# Altium integrated library Renesas Microcontroller H8S.IntLib: 670 symbols (part 11 of 70)
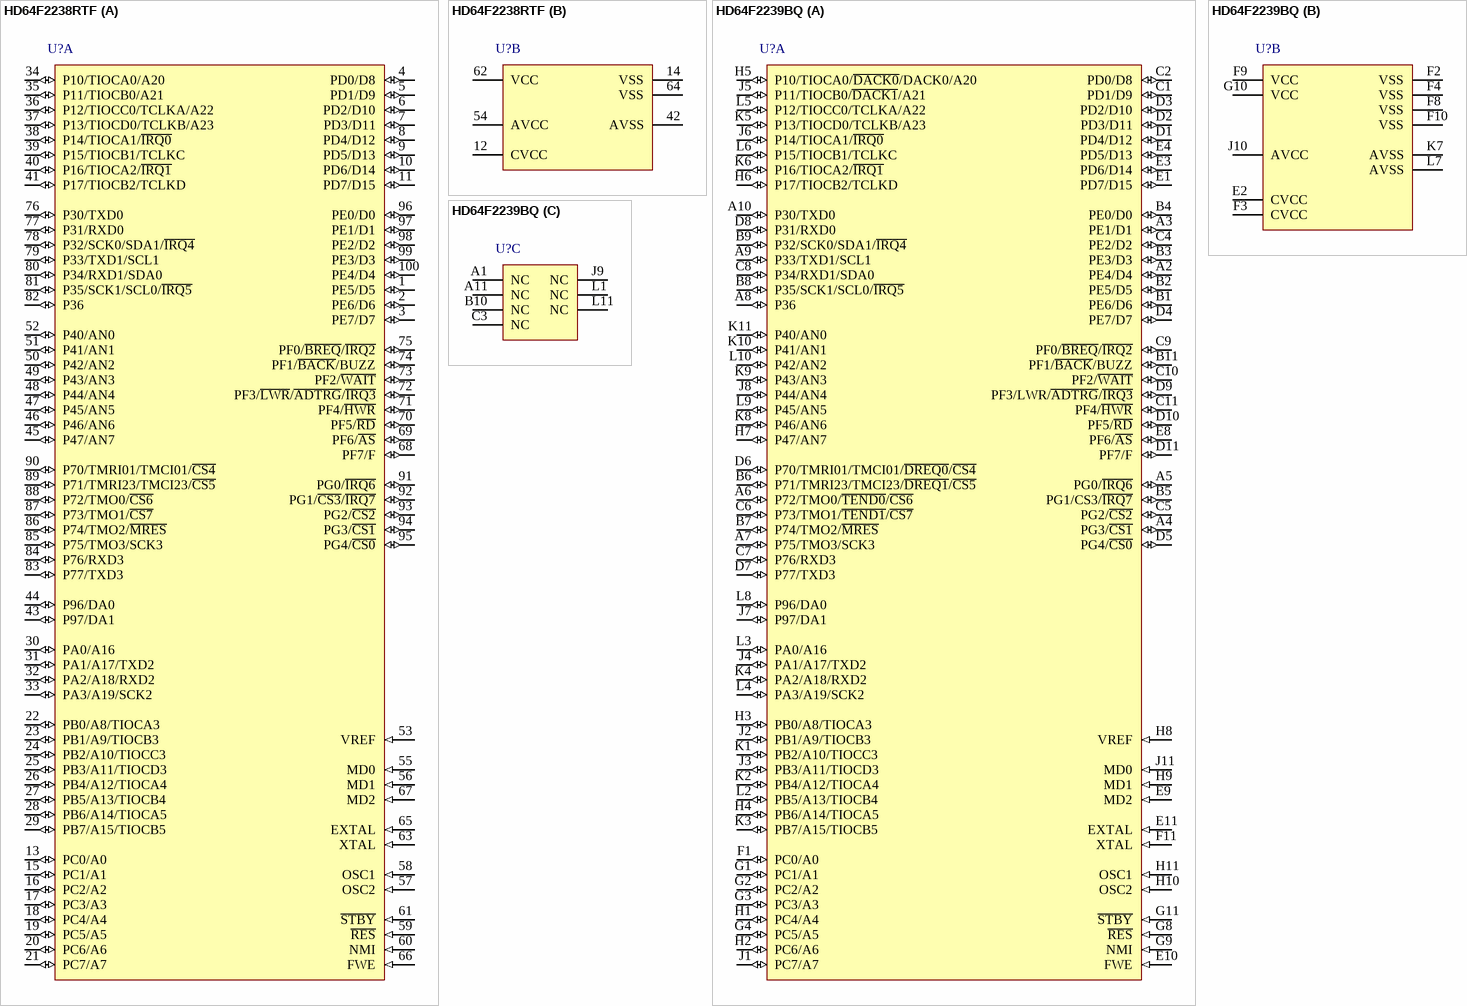
[diagram p250: symbols HD64F2238RTF to HD64F2239BQ]

## HD64F2239BQ
designator U?
Flash memory H8S/2200 Series, 2239 Group MCU, 384K ROM, 32K RAM, TBP-112A Pkg; Published: 28-Aug-2009; DatasheetVersion: Rev.5.00, Aug-2006; PackageVersion: Sep-2005; PackageReference: TTBG0112GA-A; Publisher: Altium Limited; PackageDescription: 112-Ball Thin Fine Pitch Ball Grid Array, 10 x 10 mm Body, 0.8 mm Pitch; Code_JEITA: T-TFBGA112-10x10-0.80; ComponentLink1Description: Manufacturer Link; ComponentLink1URL: http://sg.renesas.com/fmwk.jsp?cnt=h8s_family_landing.jsp&fp=/products/mpumcu/h8s_family/; ComponentLink2Description: Datasheet; ComponentLink2URL: http://documentation.renesas.com/eng/products/mpumcu/rej09b0054_h8s2239.pdf; ComponentLink3Description: Packaging Specification; ComponentLink3URL: http://sg.renesas.com/media/products/common_info/package/pdf/ic/code/ttbg0112ga_a.pdf
footprint TTBG0112GA-A (BGA, 112-Leads, Body 10x10mm, Pitch 0.8mm)
part A pins: A2 PE4/D4 (io), A3 PE1/D1 (io), A4 PG3/~{CS1} (io), A5 PG0/~{IRQ6} (io), A6 P72/TMO0/~{TEND0}/~{CS6} (io), A7 P75/TMO3/SCK3 (io), A8 P36 (io), A9 P33/TXD1/SCL1 (io), A10 P30/TXD0 (io), B1 PE6/D6 (io), B2 PE5/D5 (io), B3 PE3/D3 (io), B4 PE0/D0 (io), B5 PG1/CS3/~{IRQ7} (io), B6 P71/TMRI23/TMCI23/~{DREQ1}/~{CS5} (io), B7 P74/TMO2/~{MRES} (io), B8 P35/SCK1/SCL0/~{IRQ5} (io), B9 P32/SCK0/SDA1/~{IRQ4} (io), B11 PF1/~{BACK}/BUZZ (io), C1 PD1/D9 (io), C2 PD0/D8 (io), C4 PE2/D2 (io), C5 PG2/~{CS2} (io), C6 P73/TMO1/~{TEND1}/~{CS7} (io), C7 P76/RXD3 (io), C8 P34/RXD1/SDA0 (io), C9 PF0/~{BREQ}/~{IRQ2} (io), C10 PF2/~{WAIT} (io), C11 PF4/~{HWR} (io), D1 PD4/D12 (io), D2 PD3/D11 (io), D3 PD2/D10 (io), D4 PE7/D7 (io), D5 PG4/~{CS0} (io), D6 P70/TMRI01/TMCI01/~{DREQ0}/~{CS4} (io), D7 P77/TXD3 (io), D8 P31/RXD0 (io), D9 PF3/LWR/~{ADTRG}/~{IRQ3} (io), D10 PF5/~{RD} (io), D11 PF7/F (io), E1 PD7/D15 (io), E3 PD6/D14 (io), E4 PD5/D13 (io), E8 PF6/~{AS} (io), E9 MD2 (in), E10 FWE (in), E11 EXTAL (in), F1 PC0/A0 (io), F11 XTAL (in), G1 PC1/A1 (io), G2 PC2/A2 (io), G3 PC3/A3 (io), G4 PC5/A5 (io), G8 ~{RES} (in), G9 NMI (in), G11 ~{STBY} (in), H1 PC4/A4 (io), H2 PC6/A6 (io), H3 PB0/A8/TIOCA3 (io), H4 PB6/A14/TIOCA5 (io), H5 P10/TIOCA0/~{DACK0}/DACK0/A20 (io), H6 P17/TIOCB2/TCLKD (io), H7 P47/AN7 (io), H8 VREF (in), H9 MD1 (in), H10 OSC2 (in), H11 OSC1 (in), J1 PC7/A7 (io), J2 PB1/A9/TIOCB3 (io), J3 PB3/A11/TIOCD3 (io), J4 PA1/A17/TXD2 (io), J5 P11/TIOCB0/~{DACK1}/A21 (io), J6 P14/TIOCA1/~{IRQ0} (io), J7 P97/DA1 (io), J8 P44/AN4 (io), J11 MD0 (in), K1 PB2/A10/TIOCC3 (io), K2 PB4/A12/TIOCA4 (io), K3 PB7/A15/TIOCB5 (io), K4 PA2/A18/RXD2 (io), K5 P13/TIOCD0/TCLKB/A23 (io), K6 P16/TIOCA2/~{IRQ1} (io), K8 P46/AN6 (io), K9 P43/AN3 (io), K10 P41/AN1 (io), K11 P40/AN0 (io), L2 PB5/A13/TIOCB4 (io), L3 PA0/A16 (io), L4 PA3/A19/SCK2 (io), L5 P12/TIOCC0/TCLKA/A22 (io), L6 P15/TIOCB1/TCLKC (io), L8 P96/DA0 (io), L9 P45/AN5 (io), L10 P42/AN2 (io)
part B pins: E2 CVCC, F2 VSS (power), F3 CVCC, F4 VSS (power), F8 VSS (power), F9 VCC (power), F10 VSS (power), G10 VCC (power), J10 AVCC (power), K7 AVSS (power), L7 AVSS (power)
part C pins: A1 NC, A11 NC, B10 NC, C3 NC, J9 NC, L1 NC, L11 NC

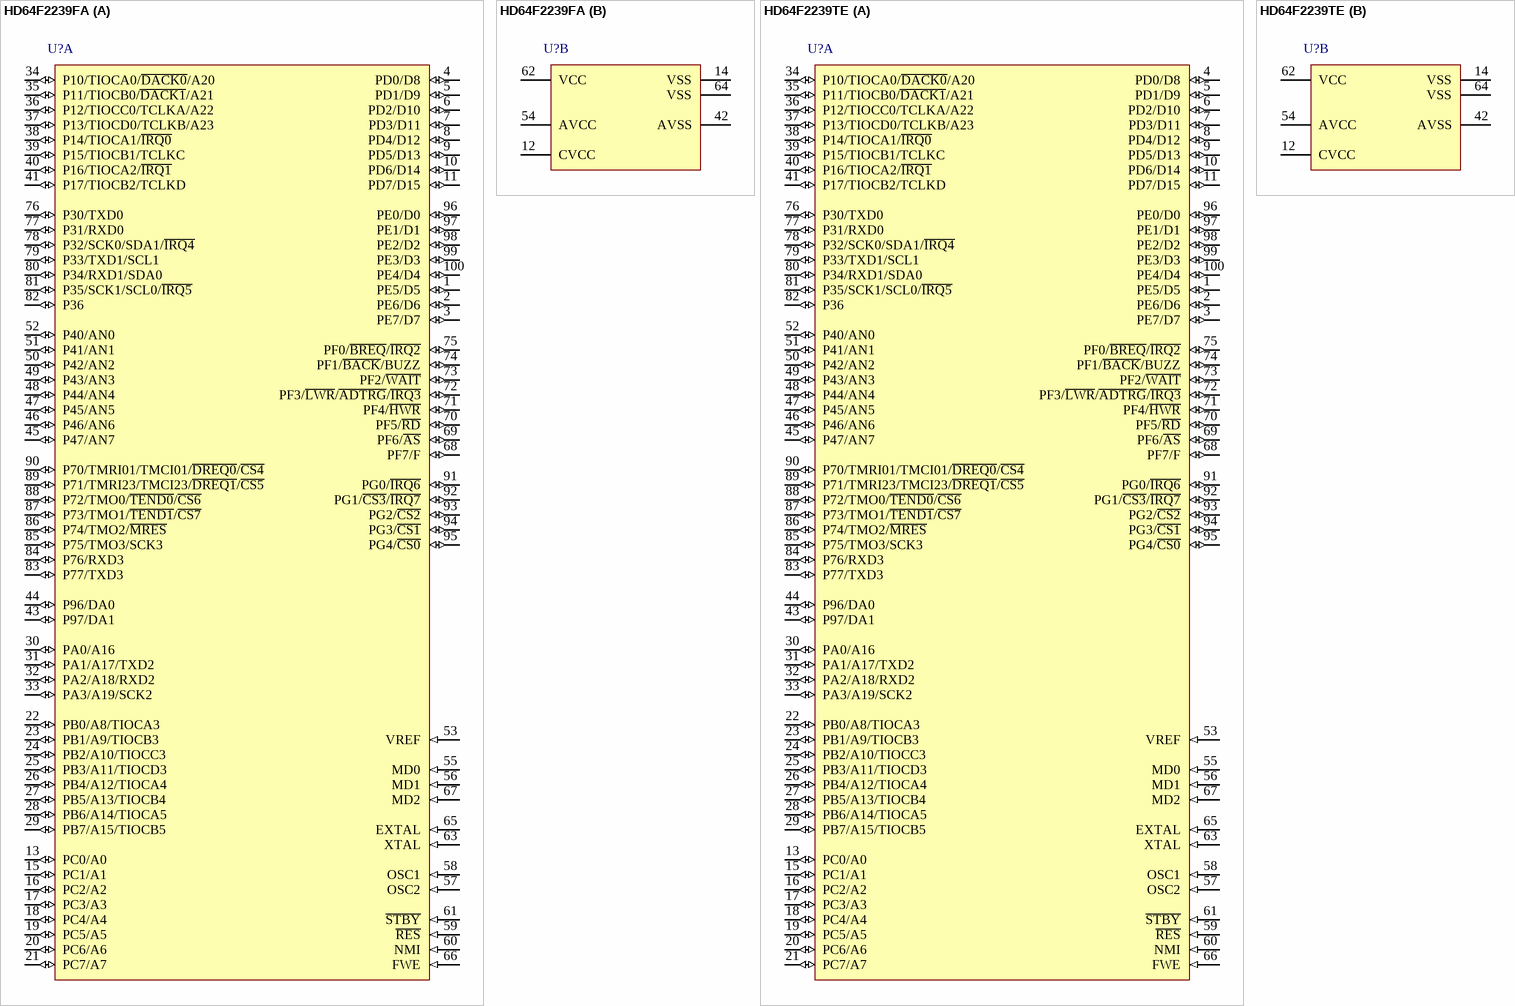
[diagram p38: symbols HD64F2239FA to HD64F2239TE]

## HD64F2239FA
designator U?
Flash memory H8S/2200 Series, 2239 Group MCU, 384K ROM, 32K RAM, FP-100B Pkg; Published: 28-Aug-2009; DatasheetVersion: Rev.5.00, Aug-2006; PackageVersion: Sep-2009; PackageReference: PRQP0100KA-A; Publisher: Altium Limited; PackageDescription: 100-Pin Plastic Quad Flat Pack, 14 x 14 x 2.7 mm Body, 0.5 mm Pitch; Code_JEITA: P-QFP100-14x14-0.50; ComponentLink1Description: Manufacturer Link; ComponentLink1URL: http://sg.renesas.com/fmwk.jsp?cnt=h8s_family_landing.jsp&fp=/products/mpumcu/h8s_family/; ComponentLink2Description: Datasheet; ComponentLink2URL: http://documentation.renesas.com/eng/products/mpumcu/rej09b0054_h8s2239.pdf; ComponentLink3Description: Packaging Specification; ComponentLink3URL: http://sg.renesas.com/media/products/common_info/package/pdf/ic/code/prqp0100ka_a.pdf
footprint PRQP0100KA-A_N (Shrink QFP, 100-Leads, Body 14x14mm, Pitch 0.5mm, IPC Medium Density)
footprint PRQP0100KA-A_L (Shrink QFP, 100-Leads, Body 14x14mm, Pitch 0.5mm, IPC High Density)
footprint PRQP0100KA-A_M (Shrink QFP, 100-Leads, Body 14x14mm, Pitch 0.5mm, IPC Low Density)
part A pins: 1 PE5/D5 (io), 2 PE6/D6 (io), 3 PE7/D7 (io), 4 PD0/D8 (io), 5 PD1/D9 (io), 6 PD2/D10 (io), 7 PD3/D11 (io), 8 PD4/D12 (io), 9 PD5/D13 (io), 10 PD6/D14 (io), 11 PD7/D15 (io), 13 PC0/A0 (io), 15 PC1/A1 (io), 16 PC2/A2 (io), 17 PC3/A3 (io), 18 PC4/A4 (io), 19 PC5/A5 (io), 20 PC6/A6 (io), 21 PC7/A7 (io), 22 PB0/A8/TIOCA3 (io), 23 PB1/A9/TIOCB3 (io), 24 PB2/A10/TIOCC3 (io), 25 PB3/A11/TIOCD3 (io), 26 PB4/A12/TIOCA4 (io), 27 PB5/A13/TIOCB4 (io), 28 PB6/A14/TIOCA5 (io), 29 PB7/A15/TIOCB5 (io), 30 PA0/A16 (io), 31 PA1/A17/TXD2 (io), 32 PA2/A18/RXD2 (io), 33 PA3/A19/SCK2 (io), 34 P10/TIOCA0/~{DACK0}/A20 (io), 35 P11/TIOCB0/~{DACK1}/A21 (io), 36 P12/TIOCC0/TCLKA/A22 (io), 37 P13/TIOCD0/TCLKB/A23 (io), 38 P14/TIOCA1/~{IRQ0} (io), 39 P15/TIOCB1/TCLKC (io), 40 P16/TIOCA2/~{IRQ1} (io), 41 P17/TIOCB2/TCLKD (io), 43 P97/DA1 (io), 44 P96/DA0 (io), 45 P47/AN7 (io), 46 P46/AN6 (io), 47 P45/AN5 (io), 48 P44/AN4 (io), 49 P43/AN3 (io), 50 P42/AN2 (io), 51 P41/AN1 (io), 52 P40/AN0 (io), 53 VREF (in), 55 MD0 (in), 56 MD1 (in), 57 OSC2 (in), 58 OSC1 (in), 59 ~{RES} (in), 60 NMI (in), 61 ~{STBY} (in), 63 XTAL (in), 65 EXTAL (in), 66 FWE (in), 67 MD2 (in), 68 PF7/F (io), 69 PF6/~{AS} (io), 70 PF5/~{RD} (io), 71 PF4/~{HWR} (io), 72 PF3/~{LWR}/~{ADTRG}/~{IRQ3} (io), 73 PF2/~{WAIT} (io), 74 PF1/~{BACK}/BUZZ (io), 75 PF0/~{BREQ}/~{IRQ2} (io), 76 P30/TXD0 (io), 77 P31/RXD0 (io), 78 P32/SCK0/SDA1/~{IRQ4} (io), 79 P33/TXD1/SCL1 (io), 80 P34/RXD1/SDA0 (io), 81 P35/SCK1/SCL0/~{IRQ5} (io), 82 P36 (io), 83 P77/TXD3 (io), 84 P76/RXD3 (io), 85 P75/TMO3/SCK3 (io), 86 P74/TMO2/~{MRES} (io), 87 P73/TMO1/~{TEND1}/~{CS7} (io), 88 P72/TMO0/~{TEND0}/~{CS6} (io), 89 P71/TMRI23/TMCI23/~{DREQ1}/~{CS5} (io), 90 P70/TMRI01/TMCI01/~{DREQ0}/~{CS4} (io), 91 PG0/~{IRQ6} (io), 92 PG1/~{CS3}/~{IRQ7} (io), 93 PG2/~{CS2} (io), 94 PG3/~{CS1} (io), 95 PG4/~{CS0} (io), 96 PE0/D0 (io), 97 PE1/D1 (io), 98 PE2/D2 (io), 99 PE3/D3 (io), 100 PE4/D4 (io)
part B pins: 12 CVCC, 14 VSS (power), 42 AVSS (power), 54 AVCC (power), 62 VCC (power), 64 VSS (power)

## HD64F2239TE
designator U?
Flash memory H8S/2200 Series, 2239 Group MCU, 384K ROM, 32K RAM, TFP-100B Pkg; Published: 28-Aug-2009; DatasheetVersion: Rev.5.00, Aug-2006; PackageVersion: Sep-2005; PackageReference: PTQP0100KA-A; Publisher: Altium Limited; PackageDescription: 100-Pin Plastic Thin Quad Flat Pack, 14 x 14 x 1.0 mm Body, 0.5 mm Pitch; Code_JEITA: P-TQFP100-14x14-0.50; ComponentLink1Description: Manufacturer Link; ComponentLink1URL: http://sg.renesas.com/fmwk.jsp?cnt=h8s_family_landing.jsp&fp=/products/mpumcu/h8s_family/; ComponentLink2Description: Datasheet; ComponentLink2URL: http://documentation.renesas.com/eng/products/mpumcu/rej09b0054_h8s2239.pdf; ComponentLink3Description: Packaging Specification; ComponentLink3URL: http://sg.renesas.com/media/products/common_info/package/pdf/ic/code/ptqp0100ka_a.pdf
footprint PTQP0100KA-A_N (Thin QFP, 100-Leads, Body 14x14mm, Pitch 0.5mm, IPC Medium Density)
footprint PTQP0100KA-A_L (Thin QFP, 100-Leads, Body 14x14mm, Pitch 0.5mm, IPC High Density)
footprint PTQP0100KA-A_M (Thin QFP, 100-Leads, Body 14x14mm, Pitch 0.5mm, IPC Low Density)
part A pins: 1 PE5/D5 (io), 2 PE6/D6 (io), 3 PE7/D7 (io), 4 PD0/D8 (io), 5 PD1/D9 (io), 6 PD2/D10 (io), 7 PD3/D11 (io), 8 PD4/D12 (io), 9 PD5/D13 (io), 10 PD6/D14 (io), 11 PD7/D15 (io), 13 PC0/A0 (io), 15 PC1/A1 (io), 16 PC2/A2 (io), 17 PC3/A3 (io), 18 PC4/A4 (io), 19 PC5/A5 (io), 20 PC6/A6 (io), 21 PC7/A7 (io), 22 PB0/A8/TIOCA3 (io), 23 PB1/A9/TIOCB3 (io), 24 PB2/A10/TIOCC3 (io), 25 PB3/A11/TIOCD3 (io), 26 PB4/A12/TIOCA4 (io), 27 PB5/A13/TIOCB4 (io), 28 PB6/A14/TIOCA5 (io), 29 PB7/A15/TIOCB5 (io), 30 PA0/A16 (io), 31 PA1/A17/TXD2 (io), 32 PA2/A18/RXD2 (io), 33 PA3/A19/SCK2 (io), 34 P10/TIOCA0/~{DACK0}/A20 (io), 35 P11/TIOCB0/~{DACK1}/A21 (io), 36 P12/TIOCC0/TCLKA/A22 (io), 37 P13/TIOCD0/TCLKB/A23 (io), 38 P14/TIOCA1/~{IRQ0} (io), 39 P15/TIOCB1/TCLKC (io), 40 P16/TIOCA2/~{IRQ1} (io), 41 P17/TIOCB2/TCLKD (io), 43 P97/DA1 (io), 44 P96/DA0 (io), 45 P47/AN7 (io), 46 P46/AN6 (io), 47 P45/AN5 (io), 48 P44/AN4 (io), 49 P43/AN3 (io), 50 P42/AN2 (io), 51 P41/AN1 (io), 52 P40/AN0 (io), 53 VREF (in), 55 MD0 (in), 56 MD1 (in), 57 OSC2 (in), 58 OSC1 (in), 59 ~{RES} (in), 60 NMI (in), 61 ~{STBY} (in), 63 XTAL (in), 65 EXTAL (in), 66 FWE (in), 67 MD2 (in), 68 PF7/F (io), 69 PF6/~{AS} (io), 70 PF5/~{RD} (io), 71 PF4/~{HWR} (io), 72 PF3/~{LWR}/~{ADTRG}/~{IRQ3} (io), 73 PF2/~{WAIT} (io), 74 PF1/~{BACK}/BUZZ (io), 75 PF0/~{BREQ}/~{IRQ2} (io), 76 P30/TXD0 (io), 77 P31/RXD0 (io), 78 P32/SCK0/SDA1/~{IRQ4} (io), 79 P33/TXD1/SCL1 (io), 80 P34/RXD1/SDA0 (io), 81 P35/SCK1/SCL0/~{IRQ5} (io), 82 P36 (io), 83 P77/TXD3 (io), 84 P76/RXD3 (io), 85 P75/TMO3/SCK3 (io), 86 P74/TMO2/~{MRES} (io), 87 P73/TMO1/~{TEND1}/~{CS7} (io), 88 P72/TMO0/~{TEND0}/~{CS6} (io), 89 P71/TMRI23/TMCI23/~{DREQ1}/~{CS5} (io), 90 P70/TMRI01/TMCI01/~{DREQ0}/~{CS4} (io), 91 PG0/~{IRQ6} (io), 92 PG1/~{CS3}/~{IRQ7} (io), 93 PG2/~{CS2} (io), 94 PG3/~{CS1} (io), 95 PG4/~{CS0} (io), 96 PE0/D0 (io), 97 PE1/D1 (io), 98 PE2/D2 (io), 99 PE3/D3 (io), 100 PE4/D4 (io)
part B pins: 12 CVCC, 14 VSS (power), 42 AVSS (power), 54 AVCC (power), 62 VCC (power), 64 VSS (power)

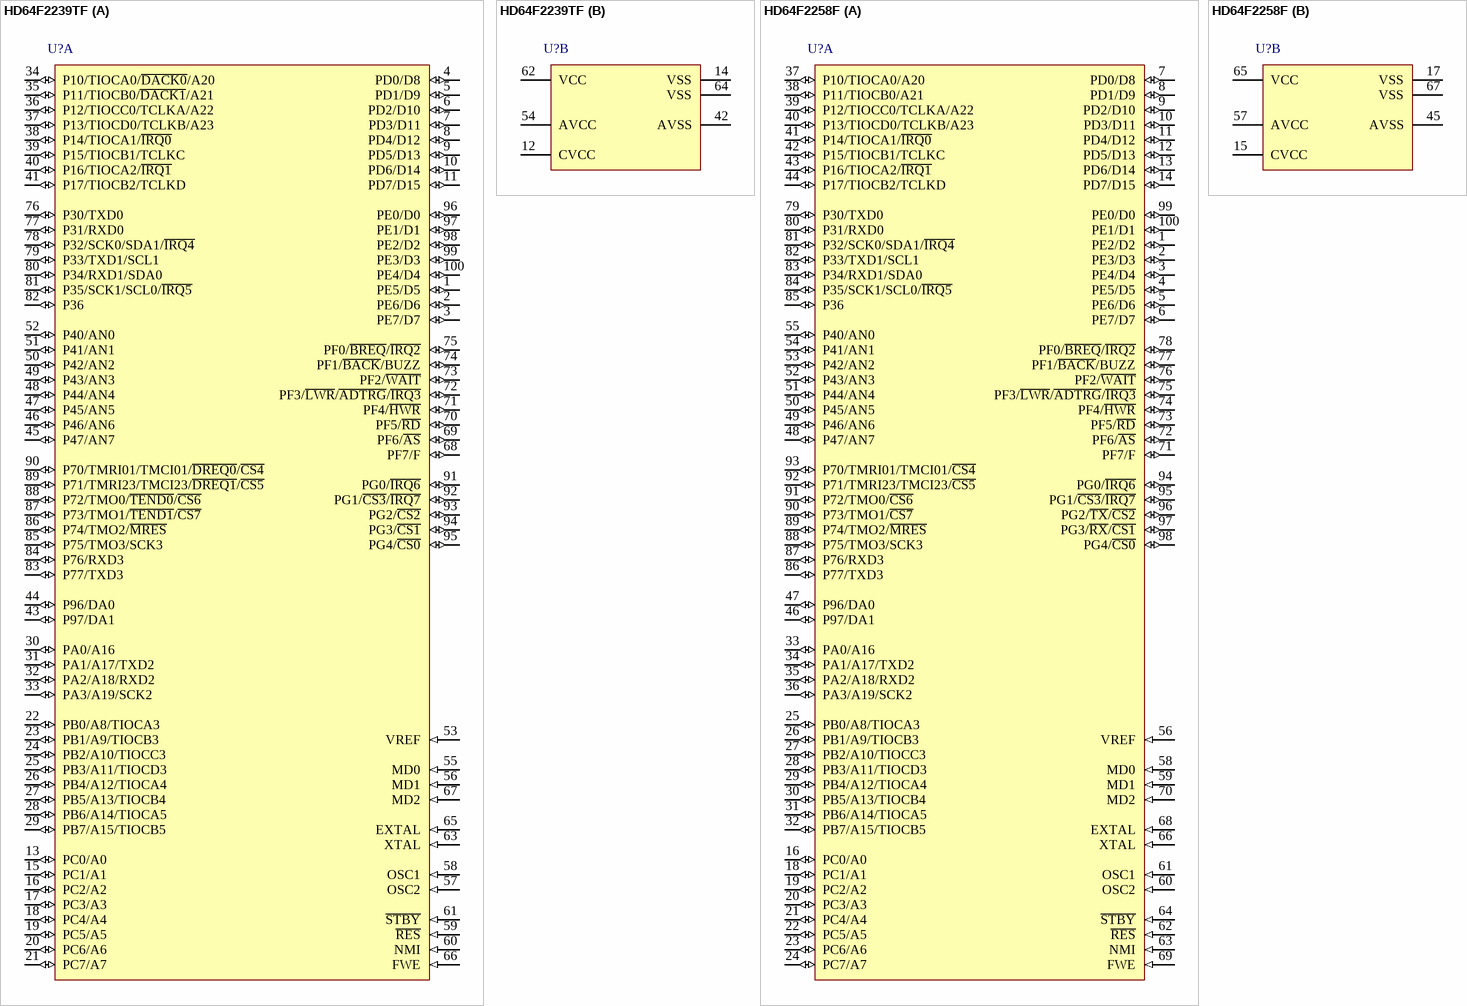
[diagram p39: symbols HD64F2239TF to HD64F2258F]

## HD64F2239TF
designator U?
Flash memory H8S/2200 Series, 2239 Group MCU, 384K ROM, 32K RAM, TFP-100G Pkg; Published: 28-Aug-2009; DatasheetVersion: Rev.5.00, Aug-2006; PackageVersion: Sep-2005; PackageReference: PTQP0100LC-A; Publisher: Altium Limited; PackageDescription: 100-Pin Plastic Thin QFP, 12 x 12 x 1.0 mm Body, 0.4 mm Pitch; Code_JEITA: P-TQFP100-12x12-0.40; ComponentLink1Description: Manufacturer Link; ComponentLink1URL: http://sg.renesas.com/fmwk.jsp?cnt=h8s_family_landing.jsp&fp=/products/mpumcu/h8s_family/; ComponentLink2Description: Datasheet; ComponentLink2URL: http://documentation.renesas.com/eng/products/mpumcu/rej09b0054_h8s2239.pdf; ComponentLink3Description: Packaging Specification; ComponentLink3URL: http://sg.renesas.com/media/products/common_info/package/pdf/ic/code/ptqp0100lc_a.pdf
footprint PTQP0100LC-A_N (Thin QFP, 100-Leads, Body 12x12mm, Pitch 0.4mm, IPC Medium Density)
footprint PTQP0100LC-A_L (Thin QFP, 100-Leads, Body 12x12mm, Pitch 0.4mm, IPC High Density)
footprint PTQP0100LC-A_M (Thin QFP, 100-Leads, Body 12x12mm, Pitch 0.4mm, IPC Low Density)
part A pins: 1 PE5/D5 (io), 2 PE6/D6 (io), 3 PE7/D7 (io), 4 PD0/D8 (io), 5 PD1/D9 (io), 6 PD2/D10 (io), 7 PD3/D11 (io), 8 PD4/D12 (io), 9 PD5/D13 (io), 10 PD6/D14 (io), 11 PD7/D15 (io), 13 PC0/A0 (io), 15 PC1/A1 (io), 16 PC2/A2 (io), 17 PC3/A3 (io), 18 PC4/A4 (io), 19 PC5/A5 (io), 20 PC6/A6 (io), 21 PC7/A7 (io), 22 PB0/A8/TIOCA3 (io), 23 PB1/A9/TIOCB3 (io), 24 PB2/A10/TIOCC3 (io), 25 PB3/A11/TIOCD3 (io), 26 PB4/A12/TIOCA4 (io), 27 PB5/A13/TIOCB4 (io), 28 PB6/A14/TIOCA5 (io), 29 PB7/A15/TIOCB5 (io), 30 PA0/A16 (io), 31 PA1/A17/TXD2 (io), 32 PA2/A18/RXD2 (io), 33 PA3/A19/SCK2 (io), 34 P10/TIOCA0/~{DACK0}/A20 (io), 35 P11/TIOCB0/~{DACK1}/A21 (io), 36 P12/TIOCC0/TCLKA/A22 (io), 37 P13/TIOCD0/TCLKB/A23 (io), 38 P14/TIOCA1/~{IRQ0} (io), 39 P15/TIOCB1/TCLKC (io), 40 P16/TIOCA2/~{IRQ1} (io), 41 P17/TIOCB2/TCLKD (io), 43 P97/DA1 (io), 44 P96/DA0 (io), 45 P47/AN7 (io), 46 P46/AN6 (io), 47 P45/AN5 (io), 48 P44/AN4 (io), 49 P43/AN3 (io), 50 P42/AN2 (io), 51 P41/AN1 (io), 52 P40/AN0 (io), 53 VREF (in), 55 MD0 (in), 56 MD1 (in), 57 OSC2 (in), 58 OSC1 (in), 59 ~{RES} (in), 60 NMI (in), 61 ~{STBY} (in), 63 XTAL (in), 65 EXTAL (in), 66 FWE (in), 67 MD2 (in), 68 PF7/F (io), 69 PF6/~{AS} (io), 70 PF5/~{RD} (io), 71 PF4/~{HWR} (io), 72 PF3/~{LWR}/~{ADTRG}/~{IRQ3} (io), 73 PF2/~{WAIT} (io), 74 PF1/~{BACK}/BUZZ (io), 75 PF0/~{BREQ}/~{IRQ2} (io), 76 P30/TXD0 (io), 77 P31/RXD0 (io), 78 P32/SCK0/SDA1/~{IRQ4} (io), 79 P33/TXD1/SCL1 (io), 80 P34/RXD1/SDA0 (io), 81 P35/SCK1/SCL0/~{IRQ5} (io), 82 P36 (io), 83 P77/TXD3 (io), 84 P76/RXD3 (io), 85 P75/TMO3/SCK3 (io), 86 P74/TMO2/~{MRES} (io), 87 P73/TMO1/~{TEND1}/~{CS7} (io), 88 P72/TMO0/~{TEND0}/~{CS6} (io), 89 P71/TMRI23/TMCI23/~{DREQ1}/~{CS5} (io), 90 P70/TMRI01/TMCI01/~{DREQ0}/~{CS4} (io), 91 PG0/~{IRQ6} (io), 92 PG1/~{CS3}/~{IRQ7} (io), 93 PG2/~{CS2} (io), 94 PG3/~{CS1} (io), 95 PG4/~{CS0} (io), 96 PE0/D0 (io), 97 PE1/D1 (io), 98 PE2/D2 (io), 99 PE3/D3 (io), 100 PE4/D4 (io)
part B pins: 12 CVCC, 14 VSS (power), 42 AVSS (power), 54 AVCC (power), 62 VCC (power), 64 VSS (power)

## HD64F2258F
designator U?
Flash memory H8S/2200 Series, 2258 Group MCU, 256K ROM, 16K RAM, FP-100A Pkg; Published: 28-Aug-2009; DatasheetVersion: Rev.5.00, Aug-2006; PackageVersion: Sep-2005; PackageReference: PRQP0100JE-B; Publisher: Altium Limited; PackageDescription: 100-Pin Plastic Quad Flat Pack, 20 x 14 x 2.7 mm Body, 0.65 mm Pitch; Code_JEITA: P-QFP100-14x20-0.65; ComponentLink1Description: Manufacturer Link; ComponentLink1URL: http://sg.renesas.com/fmwk.jsp?cnt=h8s_family_landing.jsp&fp=/products/mpumcu/h8s_family/; ComponentLink2Description: Datasheet; ComponentLink2URL: http://documentation.renesas.com/eng/products/mpumcu/rej09b0054_h8s2239.pdf; ComponentLink3Description: Packaging Specification; ComponentLink3URL: http://sg.renesas.com/media/products/common_info/package/pdf/ic/code/prqp0100je_b.pdf
footprint PRQP0100JE-B_N (QFP, 100-Leads, Body 20x14mm, Pitch 0.65mm, IPC Medium Density)
footprint PRQP0100JE-B_L (QFP, 100-Leads, Body 20x14mm, Pitch 0.65mm, IPC High Density)
footprint PRQP0100JE-B_M (QFP, 100-Leads, Body 20x14mm, Pitch 0.65mm, IPC Low Density)
part A pins: 1 PE2/D2 (io), 2 PE3/D3 (io), 3 PE4/D4 (io), 4 PE5/D5 (io), 5 PE6/D6 (io), 6 PE7/D7 (io), 7 PD0/D8 (io), 8 PD1/D9 (io), 9 PD2/D10 (io), 10 PD3/D11 (io), 11 PD4/D12 (io), 12 PD5/D13 (io), 13 PD6/D14 (io), 14 PD7/D15 (io), 16 PC0/A0 (io), 18 PC1/A1 (io), 19 PC2/A2 (io), 20 PC3/A3 (io), 21 PC4/A4 (io), 22 PC5/A5 (io), 23 PC6/A6 (io), 24 PC7/A7 (io), 25 PB0/A8/TIOCA3 (io), 26 PB1/A9/TIOCB3 (io), 27 PB2/A10/TIOCC3 (io), 28 PB3/A11/TIOCD3 (io), 29 PB4/A12/TIOCA4 (io), 30 PB5/A13/TIOCB4 (io), 31 PB6/A14/TIOCA5 (io), 32 PB7/A15/TIOCB5 (io), 33 PA0/A16 (io), 34 PA1/A17/TXD2 (io), 35 PA2/A18/RXD2 (io), 36 PA3/A19/SCK2 (io), 37 P10/TIOCA0/A20 (io), 38 P11/TIOCB0/A21 (io), 39 P12/TIOCC0/TCLKA/A22 (io), 40 P13/TIOCD0/TCLKB/A23 (io), 41 P14/TIOCA1/~{IRQ0} (io), 42 P15/TIOCB1/TCLKC (io), 43 P16/TIOCA2/~{IRQ1} (io), 44 P17/TIOCB2/TCLKD (io), 46 P97/DA1 (io), 47 P96/DA0 (io), 48 P47/AN7 (io), 49 P46/AN6 (io), 50 P45/AN5 (io), 51 P44/AN4 (io), 52 P43/AN3 (io), 53 P42/AN2 (io), 54 P41/AN1 (io), 55 P40/AN0 (io), 56 VREF (in), 58 MD0 (in), 59 MD1 (in), 60 OSC2 (in), 61 OSC1 (in), 62 ~{RES} (in), 63 NMI (in), 64 ~{STBY} (in), 66 XTAL (in), 68 EXTAL (in), 69 FWE (in), 70 MD2 (in), 71 PF7/F (io), 72 PF6/~{AS} (io), 73 PF5/~{RD} (io), 74 PF4/~{HWR} (io), 75 PF3/~{LWR}/~{ADTRG}/~{IRQ3} (io), 76 PF2/~{WAIT} (io), 77 PF1/~{BACK}/BUZZ (io), 78 PF0/~{BREQ}/~{IRQ2} (io), 79 P30/TXD0 (io), 80 P31/RXD0 (io), 81 P32/SCK0/SDA1/~{IRQ4} (io), 82 P33/TXD1/SCL1 (io), 83 P34/RXD1/SDA0 (io), 84 P35/SCK1/SCL0/~{IRQ5} (io), 85 P36 (io), 86 P77/TXD3 (io), 87 P76/RXD3 (io), 88 P75/TMO3/SCK3 (io), 89 P74/TMO2/~{MRES} (io), 90 P73/TMO1/~{CS7} (io), 91 P72/TMO0/~{CS6} (io), 92 P71/TMRI23/TMCI23/~{CS5} (io), 93 P70/TMRI01/TMCI01/~{CS4} (io), 94 PG0/~{IRQ6} (io), 95 PG1/~{CS3}/~{IRQ7} (io), 96 PG2/~{TX}/~{CS2} (io), 97 PG3/~{RX}/~{CS1} (io), 98 PG4/~{CS0} (io), 99 PE0/D0 (io), 100 PE1/D1 (io)
part B pins: 15 CVCC, 17 VSS (power), 45 AVSS (power), 57 AVCC (power), 65 VCC (power), 67 VSS (power)

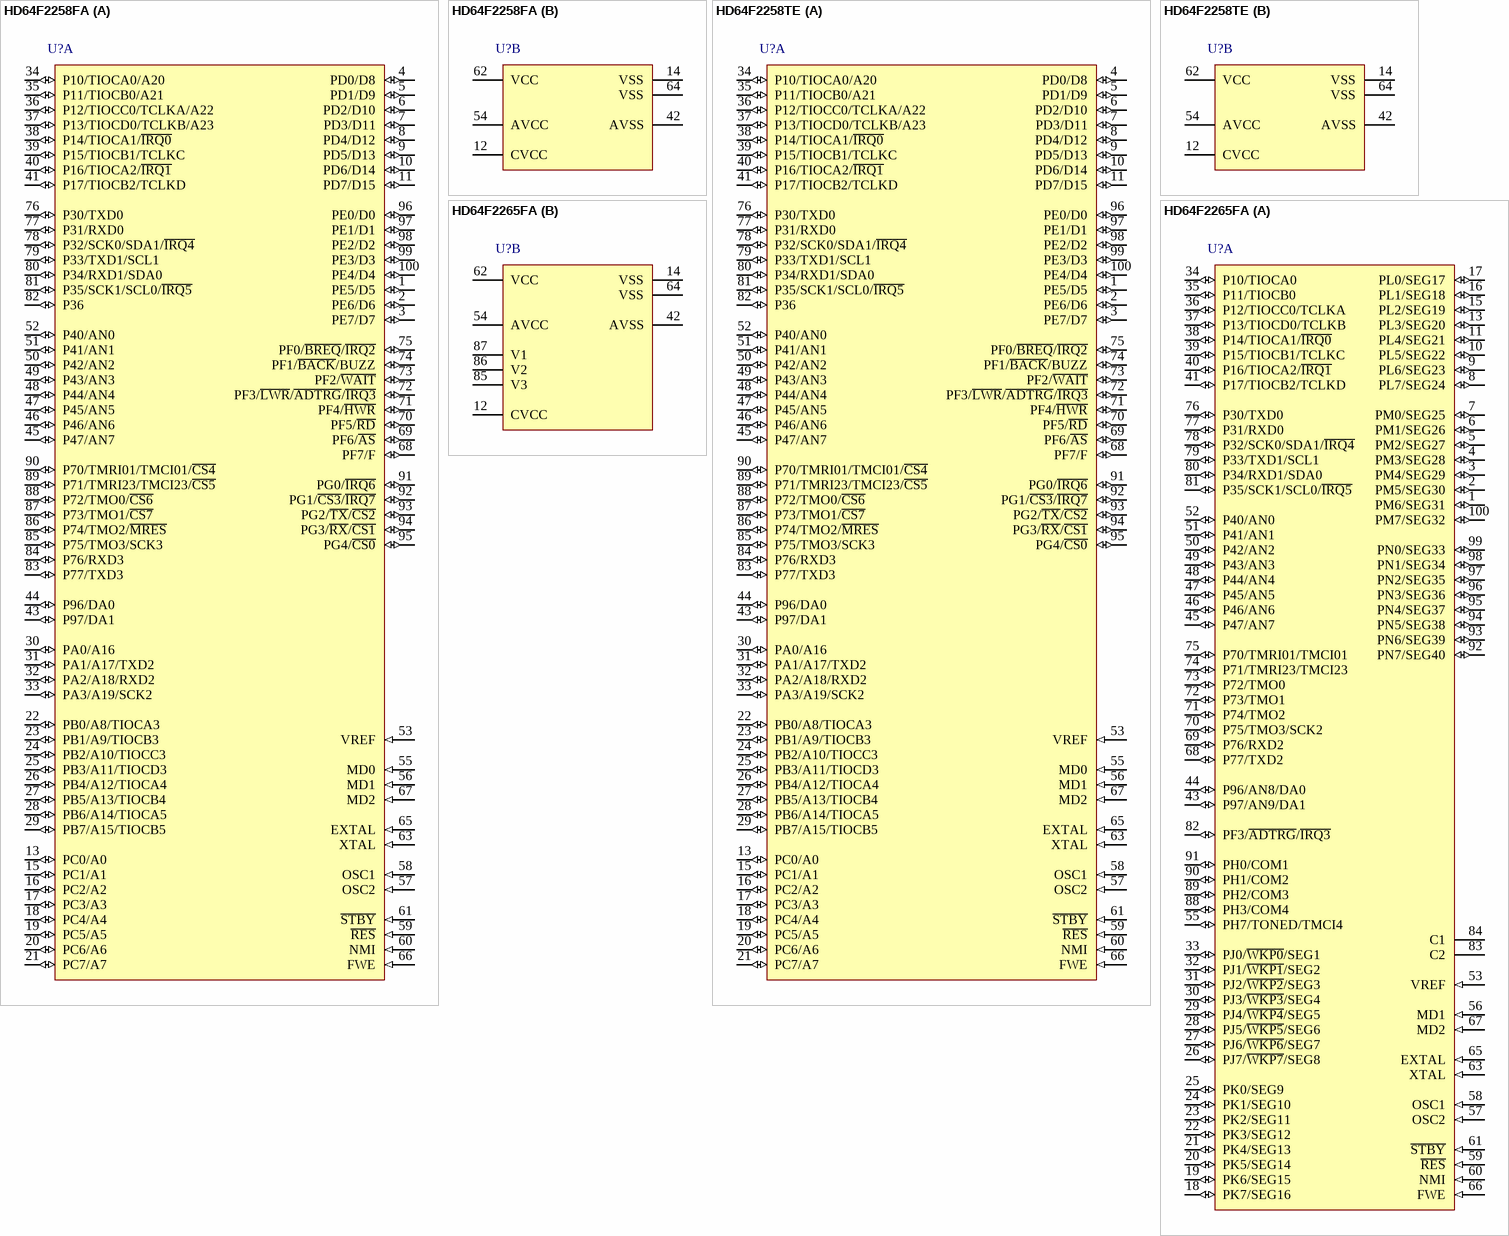
[diagram p40: symbols HD64F2258FA to HD64F2265FA]

## HD64F2258FA
designator U?
Flash memory H8S/2200 Series, 2258 Group MCU, 256K ROM, 16K RAM, FP-100B Pkg; Published: 28-Aug-2009; DatasheetVersion: Rev.5.00, Aug-2006; PackageVersion: Sep-2009; PackageReference: PRQP0100KA-A; Publisher: Altium Limited; PackageDescription: 100-Pin Plastic Quad Flat Pack, 14 x 14 x 2.7 mm Body, 0.5 mm Pitch; Code_JEITA: P-QFP100-14x14-0.50; ComponentLink1Description: Manufacturer Link; ComponentLink1URL: http://sg.renesas.com/fmwk.jsp?cnt=h8s_family_landing.jsp&fp=/products/mpumcu/h8s_family/; ComponentLink2Description: Datasheet; ComponentLink2URL: http://documentation.renesas.com/eng/products/mpumcu/rej09b0054_h8s2239.pdf; ComponentLink3Description: Packaging Specification; ComponentLink3URL: http://sg.renesas.com/media/products/common_info/package/pdf/ic/code/prqp0100ka_a.pdf
footprint PRQP0100KA-A_N (Shrink QFP, 100-Leads, Body 14x14mm, Pitch 0.5mm, IPC Medium Density)
footprint PRQP0100KA-A_L (Shrink QFP, 100-Leads, Body 14x14mm, Pitch 0.5mm, IPC High Density)
footprint PRQP0100KA-A_M (Shrink QFP, 100-Leads, Body 14x14mm, Pitch 0.5mm, IPC Low Density)
part A pins: 1 PE5/D5 (io), 2 PE6/D6 (io), 3 PE7/D7 (io), 4 PD0/D8 (io), 5 PD1/D9 (io), 6 PD2/D10 (io), 7 PD3/D11 (io), 8 PD4/D12 (io), 9 PD5/D13 (io), 10 PD6/D14 (io), 11 PD7/D15 (io), 13 PC0/A0 (io), 15 PC1/A1 (io), 16 PC2/A2 (io), 17 PC3/A3 (io), 18 PC4/A4 (io), 19 PC5/A5 (io), 20 PC6/A6 (io), 21 PC7/A7 (io), 22 PB0/A8/TIOCA3 (io), 23 PB1/A9/TIOCB3 (io), 24 PB2/A10/TIOCC3 (io), 25 PB3/A11/TIOCD3 (io), 26 PB4/A12/TIOCA4 (io), 27 PB5/A13/TIOCB4 (io), 28 PB6/A14/TIOCA5 (io), 29 PB7/A15/TIOCB5 (io), 30 PA0/A16 (io), 31 PA1/A17/TXD2 (io), 32 PA2/A18/RXD2 (io), 33 PA3/A19/SCK2 (io), 34 P10/TIOCA0/A20 (io), 35 P11/TIOCB0/A21 (io), 36 P12/TIOCC0/TCLKA/A22 (io), 37 P13/TIOCD0/TCLKB/A23 (io), 38 P14/TIOCA1/~{IRQ0} (io), 39 P15/TIOCB1/TCLKC (io), 40 P16/TIOCA2/~{IRQ1} (io), 41 P17/TIOCB2/TCLKD (io), 43 P97/DA1 (io), 44 P96/DA0 (io), 45 P47/AN7 (io), 46 P46/AN6 (io), 47 P45/AN5 (io), 48 P44/AN4 (io), 49 P43/AN3 (io), 50 P42/AN2 (io), 51 P41/AN1 (io), 52 P40/AN0 (io), 53 VREF (in), 55 MD0 (in), 56 MD1 (in), 57 OSC2 (in), 58 OSC1 (in), 59 ~{RES} (in), 60 NMI (in), 61 ~{STBY} (in), 63 XTAL (in), 65 EXTAL (in), 66 FWE (in), 67 MD2 (in), 68 PF7/F (io), 69 PF6/~{AS} (io), 70 PF5/~{RD} (io), 71 PF4/~{HWR} (io), 72 PF3/~{LWR}/~{ADTRG}/~{IRQ3} (io), 73 PF2/~{WAIT} (io), 74 PF1/~{BACK}/BUZZ (io), 75 PF0/~{BREQ}/~{IRQ2} (io), 76 P30/TXD0 (io), 77 P31/RXD0 (io), 78 P32/SCK0/SDA1/~{IRQ4} (io), 79 P33/TXD1/SCL1 (io), 80 P34/RXD1/SDA0 (io), 81 P35/SCK1/SCL0/~{IRQ5} (io), 82 P36 (io), 83 P77/TXD3 (io), 84 P76/RXD3 (io), 85 P75/TMO3/SCK3 (io), 86 P74/TMO2/~{MRES} (io), 87 P73/TMO1/~{CS7} (io), 88 P72/TMO0/~{CS6} (io), 89 P71/TMRI23/TMCI23/~{CS5} (io), 90 P70/TMRI01/TMCI01/~{CS4} (io), 91 PG0/~{IRQ6} (io), 92 PG1/~{CS3}/~{IRQ7} (io), 93 PG2/~{TX}/~{CS2} (io), 94 PG3/~{RX}/~{CS1} (io), 95 PG4/~{CS0} (io), 96 PE0/D0 (io), 97 PE1/D1 (io), 98 PE2/D2 (io), 99 PE3/D3 (io), 100 PE4/D4 (io)
part B pins: 12 CVCC, 14 VSS (power), 42 AVSS (power), 54 AVCC (power), 62 VCC (power), 64 VSS (power)

## HD64F2258TE
designator U?
Flash memory H8S/2200 Series, 2258 Group MCU, 256K ROM, 16K RAM, TFP-100B Pkg; Published: 28-Aug-2009; DatasheetVersion: Rev.5.00, Aug-2006; PackageVersion: Sep-2005; PackageReference: PTQP0100KA-A; Publisher: Altium Limited; PackageDescription: 100-Pin Plastic Thin Quad Flat Pack, 14 x 14 x 1.0 mm Body, 0.5 mm Pitch; Code_JEITA: P-TQFP100-14x14-0.50; ComponentLink1Description: Manufacturer Link; ComponentLink1URL: http://sg.renesas.com/fmwk.jsp?cnt=h8s_family_landing.jsp&fp=/products/mpumcu/h8s_family/; ComponentLink2Description: Datasheet; ComponentLink2URL: http://documentation.renesas.com/eng/products/mpumcu/rej09b0054_h8s2239.pdf; ComponentLink3Description: Packaging Specification; ComponentLink3URL: http://sg.renesas.com/media/products/common_info/package/pdf/ic/code/ptqp0100ka_a.pdf
footprint PTQP0100KA-A_N (Thin QFP, 100-Leads, Body 14x14mm, Pitch 0.5mm, IPC Medium Density)
footprint PTQP0100KA-A_L (Thin QFP, 100-Leads, Body 14x14mm, Pitch 0.5mm, IPC High Density)
footprint PTQP0100KA-A_M (Thin QFP, 100-Leads, Body 14x14mm, Pitch 0.5mm, IPC Low Density)
part A pins: 1 PE5/D5 (io), 2 PE6/D6 (io), 3 PE7/D7 (io), 4 PD0/D8 (io), 5 PD1/D9 (io), 6 PD2/D10 (io), 7 PD3/D11 (io), 8 PD4/D12 (io), 9 PD5/D13 (io), 10 PD6/D14 (io), 11 PD7/D15 (io), 13 PC0/A0 (io), 15 PC1/A1 (io), 16 PC2/A2 (io), 17 PC3/A3 (io), 18 PC4/A4 (io), 19 PC5/A5 (io), 20 PC6/A6 (io), 21 PC7/A7 (io), 22 PB0/A8/TIOCA3 (io), 23 PB1/A9/TIOCB3 (io), 24 PB2/A10/TIOCC3 (io), 25 PB3/A11/TIOCD3 (io), 26 PB4/A12/TIOCA4 (io), 27 PB5/A13/TIOCB4 (io), 28 PB6/A14/TIOCA5 (io), 29 PB7/A15/TIOCB5 (io), 30 PA0/A16 (io), 31 PA1/A17/TXD2 (io), 32 PA2/A18/RXD2 (io), 33 PA3/A19/SCK2 (io), 34 P10/TIOCA0/A20 (io), 35 P11/TIOCB0/A21 (io), 36 P12/TIOCC0/TCLKA/A22 (io), 37 P13/TIOCD0/TCLKB/A23 (io), 38 P14/TIOCA1/~{IRQ0} (io), 39 P15/TIOCB1/TCLKC (io), 40 P16/TIOCA2/~{IRQ1} (io), 41 P17/TIOCB2/TCLKD (io), 43 P97/DA1 (io), 44 P96/DA0 (io), 45 P47/AN7 (io), 46 P46/AN6 (io), 47 P45/AN5 (io), 48 P44/AN4 (io), 49 P43/AN3 (io), 50 P42/AN2 (io), 51 P41/AN1 (io), 52 P40/AN0 (io), 53 VREF (in), 55 MD0 (in), 56 MD1 (in), 57 OSC2 (in), 58 OSC1 (in), 59 ~{RES} (in), 60 NMI (in), 61 ~{STBY} (in), 63 XTAL (in), 65 EXTAL (in), 66 FWE (in), 67 MD2 (in), 68 PF7/F (io), 69 PF6/~{AS} (io), 70 PF5/~{RD} (io), 71 PF4/~{HWR} (io), 72 PF3/~{LWR}/~{ADTRG}/~{IRQ3} (io), 73 PF2/~{WAIT} (io), 74 PF1/~{BACK}/BUZZ (io), 75 PF0/~{BREQ}/~{IRQ2} (io), 76 P30/TXD0 (io), 77 P31/RXD0 (io), 78 P32/SCK0/SDA1/~{IRQ4} (io), 79 P33/TXD1/SCL1 (io), 80 P34/RXD1/SDA0 (io), 81 P35/SCK1/SCL0/~{IRQ5} (io), 82 P36 (io), 83 P77/TXD3 (io), 84 P76/RXD3 (io), 85 P75/TMO3/SCK3 (io), 86 P74/TMO2/~{MRES} (io), 87 P73/TMO1/~{CS7} (io), 88 P72/TMO0/~{CS6} (io), 89 P71/TMRI23/TMCI23/~{CS5} (io), 90 P70/TMRI01/TMCI01/~{CS4} (io), 91 PG0/~{IRQ6} (io), 92 PG1/~{CS3}/~{IRQ7} (io), 93 PG2/~{TX}/~{CS2} (io), 94 PG3/~{RX}/~{CS1} (io), 95 PG4/~{CS0} (io), 96 PE0/D0 (io), 97 PE1/D1 (io), 98 PE2/D2 (io), 99 PE3/D3 (io), 100 PE4/D4 (io)
part B pins: 12 CVCC, 14 VSS (power), 42 AVSS (power), 54 AVCC (power), 62 VCC (power), 64 VSS (power)

## HD64F2265FA
designator U?
Flash memory H8S/2200 Series, 2268 Group MCU, 128K ROM, 4K RAM, FP-100B Pkg; Published: 28-Aug-2009; DatasheetVersion: Rev.5.00, Sep-2009; PackageVersion: Sep-2009; PackageReference: PRQP0100KA-A; Publisher: Altium Limited; PackageDescription: 100-Pin Plastic Quad Flat Pack, 14 x 14 x 2.7 mm Body, 0.5 mm Pitch; Code_JEITA: P-QFP100-14x14-0.50; ComponentLink1Description: Manufacturer Link; ComponentLink1URL: http://sg.renesas.com/fmwk.jsp?cnt=h8s_family_landing.jsp&fp=/products/mpumcu/h8s_family/; ComponentLink2Description: Datasheet; ComponentLink2URL: http://documentation.renesas.com/eng/products/mpumcu/rej09b0071_h8s2268.pdf; ComponentLink3Description: Packaging Specification; ComponentLink3URL: http://sg.renesas.com/media/products/common_info/package/pdf/ic/code/prqp0100ka_a.pdf
footprint PRQP0100KA-A_N (Shrink QFP, 100-Leads, Body 14x14mm, Pitch 0.5mm, IPC Medium Density)
footprint PRQP0100KA-A_L (Shrink QFP, 100-Leads, Body 14x14mm, Pitch 0.5mm, IPC High Density)
footprint PRQP0100KA-A_M (Shrink QFP, 100-Leads, Body 14x14mm, Pitch 0.5mm, IPC Low Density)
part A pins: 1 PM6/SEG31 (io), 2 PM5/SEG30 (io), 3 PM4/SEG29 (io), 4 PM3/SEG28 (io), 5 PM2/SEG27 (io), 6 PM1/SEG26 (io), 7 PM0/SEG25 (io), 8 PL7/SEG24 (io), 9 PL6/SEG23 (io), 10 PL5/SEG22 (io), 11 PL4/SEG21 (io), 13 PL3/SEG20 (io), 15 PL2/SEG19 (io), 16 PL1/SEG18 (io), 17 PL0/SEG17 (io), 18 PK7/SEG16 (io), 19 PK6/SEG15 (io), 20 PK5/SEG14 (io), 21 PK4/SEG13 (io), 22 PK3/SEG12 (io), 23 PK2/SEG11 (io), 24 PK1/SEG10 (io), 25 PK0/SEG9 (io), 26 PJ7/~{WKP7}/SEG8 (io), 27 PJ6/~{WKP6}/SEG7 (io), 28 PJ5/~{WKP5}/SEG6 (io), 29 PJ4/~{WKP4}/SEG5 (io), 30 PJ3/~{WKP3}/SEG4 (io), 31 PJ2/~{WKP2}/SEG3 (io), 32 PJ1/~{WKP1}/SEG2 (io), 33 PJ0/~{WKP0}/SEG1 (io), 34 P10/TIOCA0 (io), 35 P11/TIOCB0 (io), 36 P12/TIOCC0/TCLKA (io), 37 P13/TIOCD0/TCLKB (io), 38 P14/TIOCA1/~{IRQ0} (io), 39 P15/TIOCB1/TCLKC (io), 40 P16/TIOCA2/~{IRQ1} (io), 41 P17/TIOCB2/TCLKD (io), 43 P97/AN9/DA1 (io), 44 P96/AN8/DA0 (io), 45 P47/AN7 (io), 46 P46/AN6 (io), 47 P45/AN5 (io), 48 P44/AN4 (io), 49 P43/AN3 (io), 50 P42/AN2 (io), 51 P41/AN1 (io), 52 P40/AN0 (io), 53 VREF (in), 55 PH7/TONED/TMCI4 (io), 56 MD1 (in), 57 OSC2 (in), 58 OSC1 (in), 59 ~{RES} (in), 60 NMI (in), 61 ~{STBY} (in), 63 XTAL (in), 65 EXTAL (in), 66 FWE (in), 67 MD2 (in), 68 P77/TXD2 (io), 69 P76/RXD2 (io), 70 P75/TMO3/SCK2 (io), 71 P74/TMO2 (io), 72 P73/TMO1 (io), 73 P72/TMO0 (io), 74 P71/TMRI23/TMCI23 (io), 75 P70/TMRI01/TMCI01 (io), 76 P30/TXD0 (io), 77 P31/RXD0 (io), 78 P32/SCK0/SDA1/~{IRQ4} (io), 79 P33/TXD1/SCL1 (io), 80 P34/RXD1/SDA0 (io), 81 P35/SCK1/SCL0/~{IRQ5} (io), 82 PF3/~{ADTRG}/~{IRQ3} (io), 83 C2, 84 C1, 88 PH3/COM4 (io), 89 PH2/COM3 (io), 90 PH1/COM2 (io), 91 PH0/COM1 (io), 92 PN7/SEG40 (io), 93 PN6/SEG39 (io), 94 PN5/SEG38 (io), 95 PN4/SEG37 (io), 96 PN3/SEG36 (io), 97 PN2/SEG35 (io), 98 PN1/SEG34 (io), 99 PN0/SEG33 (io), 100 PM7/SEG32 (io)
part B pins: 12 CVCC, 14 VSS (power), 42 AVSS (power), 54 AVCC (power), 62 VCC (power), 64 VSS (power), 85 V3 (power), 86 V2 (power), 87 V1 (power)

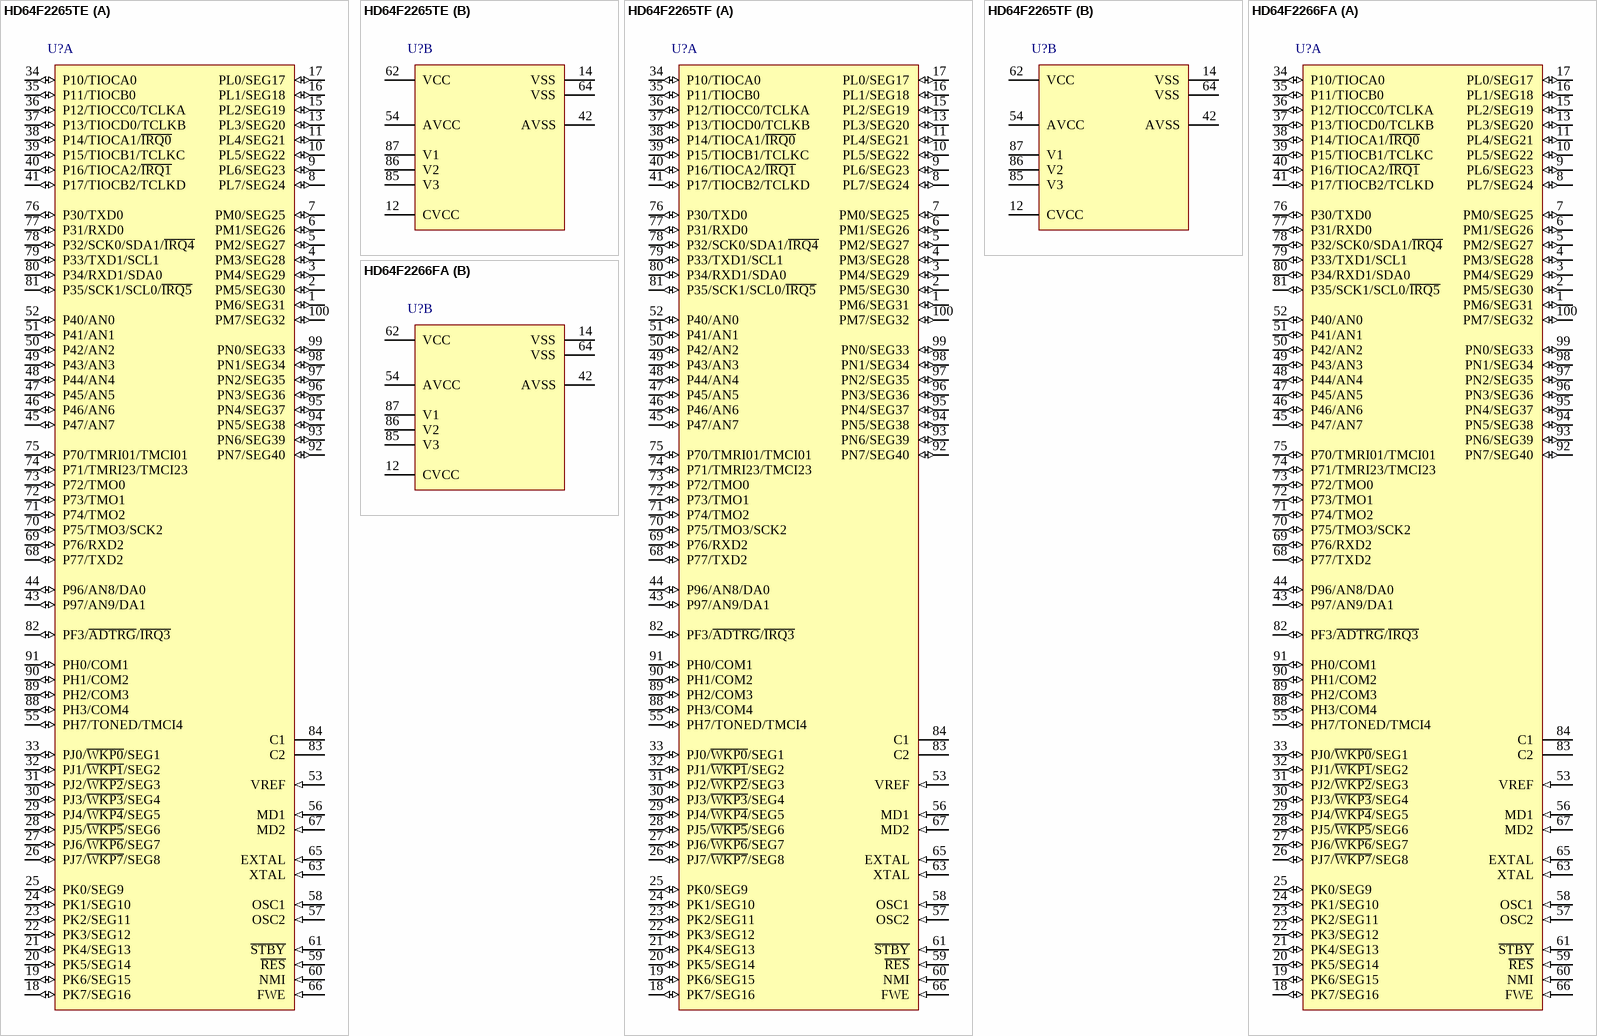
[diagram p41: symbols HD64F2265TE to HD64F2266FA]

## HD64F2265TE
designator U?
Flash memory H8S/2200 Series, 2268 Group MCU, 128K ROM, 4K RAM, TFP-100B Pkg; Published: 28-Aug-2009; DatasheetVersion: Rev.5.00, Sep-2009; PackageVersion: Sep-2005; PackageReference: PTQP0100KA-A; Publisher: Altium Limited; PackageDescription: 100-Pin Plastic Thin Quad Flat Pack, 14 x 14 x 1.0 mm Body, 0.5 mm Pitch; Code_JEITA: P-TQFP100-14x14-0.50; ComponentLink1Description: Manufacturer Link; ComponentLink1URL: http://sg.renesas.com/fmwk.jsp?cnt=h8s_family_landing.jsp&fp=/products/mpumcu/h8s_family/; ComponentLink2Description: Datasheet; ComponentLink2URL: http://documentation.renesas.com/eng/products/mpumcu/rej09b0071_h8s2268.pdf; ComponentLink3Description: Packaging Specification; ComponentLink3URL: http://sg.renesas.com/media/products/common_info/package/pdf/ic/code/ptqp0100ka_a.pdf
footprint PTQP0100KA-A_N (Thin QFP, 100-Leads, Body 14x14mm, Pitch 0.5mm, IPC Medium Density)
footprint PTQP0100KA-A_L (Thin QFP, 100-Leads, Body 14x14mm, Pitch 0.5mm, IPC High Density)
footprint PTQP0100KA-A_M (Thin QFP, 100-Leads, Body 14x14mm, Pitch 0.5mm, IPC Low Density)
part A pins: 1 PM6/SEG31 (io), 2 PM5/SEG30 (io), 3 PM4/SEG29 (io), 4 PM3/SEG28 (io), 5 PM2/SEG27 (io), 6 PM1/SEG26 (io), 7 PM0/SEG25 (io), 8 PL7/SEG24 (io), 9 PL6/SEG23 (io), 10 PL5/SEG22 (io), 11 PL4/SEG21 (io), 13 PL3/SEG20 (io), 15 PL2/SEG19 (io), 16 PL1/SEG18 (io), 17 PL0/SEG17 (io), 18 PK7/SEG16 (io), 19 PK6/SEG15 (io), 20 PK5/SEG14 (io), 21 PK4/SEG13 (io), 22 PK3/SEG12 (io), 23 PK2/SEG11 (io), 24 PK1/SEG10 (io), 25 PK0/SEG9 (io), 26 PJ7/~{WKP7}/SEG8 (io), 27 PJ6/~{WKP6}/SEG7 (io), 28 PJ5/~{WKP5}/SEG6 (io), 29 PJ4/~{WKP4}/SEG5 (io), 30 PJ3/~{WKP3}/SEG4 (io), 31 PJ2/~{WKP2}/SEG3 (io), 32 PJ1/~{WKP1}/SEG2 (io), 33 PJ0/~{WKP0}/SEG1 (io), 34 P10/TIOCA0 (io), 35 P11/TIOCB0 (io), 36 P12/TIOCC0/TCLKA (io), 37 P13/TIOCD0/TCLKB (io), 38 P14/TIOCA1/~{IRQ0} (io), 39 P15/TIOCB1/TCLKC (io), 40 P16/TIOCA2/~{IRQ1} (io), 41 P17/TIOCB2/TCLKD (io), 43 P97/AN9/DA1 (io), 44 P96/AN8/DA0 (io), 45 P47/AN7 (io), 46 P46/AN6 (io), 47 P45/AN5 (io), 48 P44/AN4 (io), 49 P43/AN3 (io), 50 P42/AN2 (io), 51 P41/AN1 (io), 52 P40/AN0 (io), 53 VREF (in), 55 PH7/TONED/TMCI4 (io), 56 MD1 (in), 57 OSC2 (in), 58 OSC1 (in), 59 ~{RES} (in), 60 NMI (in), 61 ~{STBY} (in), 63 XTAL (in), 65 EXTAL (in), 66 FWE (in), 67 MD2 (in), 68 P77/TXD2 (io), 69 P76/RXD2 (io), 70 P75/TMO3/SCK2 (io), 71 P74/TMO2 (io), 72 P73/TMO1 (io), 73 P72/TMO0 (io), 74 P71/TMRI23/TMCI23 (io), 75 P70/TMRI01/TMCI01 (io), 76 P30/TXD0 (io), 77 P31/RXD0 (io), 78 P32/SCK0/SDA1/~{IRQ4} (io), 79 P33/TXD1/SCL1 (io), 80 P34/RXD1/SDA0 (io), 81 P35/SCK1/SCL0/~{IRQ5} (io), 82 PF3/~{ADTRG}/~{IRQ3} (io), 83 C2, 84 C1, 88 PH3/COM4 (io), 89 PH2/COM3 (io), 90 PH1/COM2 (io), 91 PH0/COM1 (io), 92 PN7/SEG40 (io), 93 PN6/SEG39 (io), 94 PN5/SEG38 (io), 95 PN4/SEG37 (io), 96 PN3/SEG36 (io), 97 PN2/SEG35 (io), 98 PN1/SEG34 (io), 99 PN0/SEG33 (io), 100 PM7/SEG32 (io)
part B pins: 12 CVCC, 14 VSS (power), 42 AVSS (power), 54 AVCC (power), 62 VCC (power), 64 VSS (power), 85 V3 (power), 86 V2 (power), 87 V1 (power)

## HD64F2265TF
designator U?
Flash memory H8S/2200 Series, 2268 Group MCU, 128K ROM, 4K RAM, TFP-100G Pkg; Published: 28-Aug-2009; DatasheetVersion: Rev.5.00, Sep-2009; PackageVersion: Sep-2005; PackageReference: PTQP0100LC-A; Publisher: Altium Limited; PackageDescription: 100-Pin Plastic Thin QFP, 12 x 12 x 1.0 mm Body, 0.4 mm Pitch; Code_JEITA: P-TQFP100-12x12-0.40; ComponentLink1Description: Manufacturer Link; ComponentLink1URL: http://sg.renesas.com/fmwk.jsp?cnt=h8s_family_landing.jsp&fp=/products/mpumcu/h8s_family/; ComponentLink2Description: Datasheet; ComponentLink2URL: http://documentation.renesas.com/eng/products/mpumcu/rej09b0071_h8s2268.pdf; ComponentLink3Description: Packaging Specification; ComponentLink3URL: http://sg.renesas.com/media/products/common_info/package/pdf/ic/code/ptqp0100lc_a.pdf
footprint PTQP0100LC-A_N (Thin QFP, 100-Leads, Body 12x12mm, Pitch 0.4mm, IPC Medium Density)
footprint PTQP0100LC-A_L (Thin QFP, 100-Leads, Body 12x12mm, Pitch 0.4mm, IPC High Density)
footprint PTQP0100LC-A_M (Thin QFP, 100-Leads, Body 12x12mm, Pitch 0.4mm, IPC Low Density)
part A pins: 1 PM6/SEG31 (io), 2 PM5/SEG30 (io), 3 PM4/SEG29 (io), 4 PM3/SEG28 (io), 5 PM2/SEG27 (io), 6 PM1/SEG26 (io), 7 PM0/SEG25 (io), 8 PL7/SEG24 (io), 9 PL6/SEG23 (io), 10 PL5/SEG22 (io), 11 PL4/SEG21 (io), 13 PL3/SEG20 (io), 15 PL2/SEG19 (io), 16 PL1/SEG18 (io), 17 PL0/SEG17 (io), 18 PK7/SEG16 (io), 19 PK6/SEG15 (io), 20 PK5/SEG14 (io), 21 PK4/SEG13 (io), 22 PK3/SEG12 (io), 23 PK2/SEG11 (io), 24 PK1/SEG10 (io), 25 PK0/SEG9 (io), 26 PJ7/~{WKP7}/SEG8 (io), 27 PJ6/~{WKP6}/SEG7 (io), 28 PJ5/~{WKP5}/SEG6 (io), 29 PJ4/~{WKP4}/SEG5 (io), 30 PJ3/~{WKP3}/SEG4 (io), 31 PJ2/~{WKP2}/SEG3 (io), 32 PJ1/~{WKP1}/SEG2 (io), 33 PJ0/~{WKP0}/SEG1 (io), 34 P10/TIOCA0 (io), 35 P11/TIOCB0 (io), 36 P12/TIOCC0/TCLKA (io), 37 P13/TIOCD0/TCLKB (io), 38 P14/TIOCA1/~{IRQ0} (io), 39 P15/TIOCB1/TCLKC (io), 40 P16/TIOCA2/~{IRQ1} (io), 41 P17/TIOCB2/TCLKD (io), 43 P97/AN9/DA1 (io), 44 P96/AN8/DA0 (io), 45 P47/AN7 (io), 46 P46/AN6 (io), 47 P45/AN5 (io), 48 P44/AN4 (io), 49 P43/AN3 (io), 50 P42/AN2 (io), 51 P41/AN1 (io), 52 P40/AN0 (io), 53 VREF (in), 55 PH7/TONED/TMCI4 (io), 56 MD1 (in), 57 OSC2 (in), 58 OSC1 (in), 59 ~{RES} (in), 60 NMI (in), 61 ~{STBY} (in), 63 XTAL (in), 65 EXTAL (in), 66 FWE (in), 67 MD2 (in), 68 P77/TXD2 (io), 69 P76/RXD2 (io), 70 P75/TMO3/SCK2 (io), 71 P74/TMO2 (io), 72 P73/TMO1 (io), 73 P72/TMO0 (io), 74 P71/TMRI23/TMCI23 (io), 75 P70/TMRI01/TMCI01 (io), 76 P30/TXD0 (io), 77 P31/RXD0 (io), 78 P32/SCK0/SDA1/~{IRQ4} (io), 79 P33/TXD1/SCL1 (io), 80 P34/RXD1/SDA0 (io), 81 P35/SCK1/SCL0/~{IRQ5} (io), 82 PF3/~{ADTRG}/~{IRQ3} (io), 83 C2, 84 C1, 88 PH3/COM4 (io), 89 PH2/COM3 (io), 90 PH1/COM2 (io), 91 PH0/COM1 (io), 92 PN7/SEG40 (io), 93 PN6/SEG39 (io), 94 PN5/SEG38 (io), 95 PN4/SEG37 (io), 96 PN3/SEG36 (io), 97 PN2/SEG35 (io), 98 PN1/SEG34 (io), 99 PN0/SEG33 (io), 100 PM7/SEG32 (io)
part B pins: 12 CVCC, 14 VSS (power), 42 AVSS (power), 54 AVCC (power), 62 VCC (power), 64 VSS (power), 85 V3 (power), 86 V2 (power), 87 V1 (power)

## HD64F2266FA
designator U?
Flash memory H8S/2200 Series, 2268 Group MCU, 128K ROM, 8K RAM, FP-100B Pkg; Published: 28-Aug-2009; DatasheetVersion: Rev.5.00, Sep-2009; PackageVersion: Sep-2009; PackageReference: PRQP0100KA-A; Publisher: Altium Limited; PackageDescription: 100-Pin Plastic Quad Flat Pack, 14 x 14 x 2.7 mm Body, 0.5 mm Pitch; Code_JEITA: P-QFP100-14x14-0.50; ComponentLink1Description: Manufacturer Link; ComponentLink1URL: http://sg.renesas.com/fmwk.jsp?cnt=h8s_family_landing.jsp&fp=/products/mpumcu/h8s_family/; ComponentLink2Description: Datasheet; ComponentLink2URL: http://documentation.renesas.com/eng/products/mpumcu/rej09b0071_h8s2268.pdf; ComponentLink3Description: Packaging Specification; ComponentLink3URL: http://sg.renesas.com/media/products/common_info/package/pdf/ic/code/prqp0100ka_a.pdf
footprint PRQP0100KA-A_N (Shrink QFP, 100-Leads, Body 14x14mm, Pitch 0.5mm, IPC Medium Density)
footprint PRQP0100KA-A_L (Shrink QFP, 100-Leads, Body 14x14mm, Pitch 0.5mm, IPC High Density)
footprint PRQP0100KA-A_M (Shrink QFP, 100-Leads, Body 14x14mm, Pitch 0.5mm, IPC Low Density)
part A pins: 1 PM6/SEG31 (io), 2 PM5/SEG30 (io), 3 PM4/SEG29 (io), 4 PM3/SEG28 (io), 5 PM2/SEG27 (io), 6 PM1/SEG26 (io), 7 PM0/SEG25 (io), 8 PL7/SEG24 (io), 9 PL6/SEG23 (io), 10 PL5/SEG22 (io), 11 PL4/SEG21 (io), 13 PL3/SEG20 (io), 15 PL2/SEG19 (io), 16 PL1/SEG18 (io), 17 PL0/SEG17 (io), 18 PK7/SEG16 (io), 19 PK6/SEG15 (io), 20 PK5/SEG14 (io), 21 PK4/SEG13 (io), 22 PK3/SEG12 (io), 23 PK2/SEG11 (io), 24 PK1/SEG10 (io), 25 PK0/SEG9 (io), 26 PJ7/~{WKP7}/SEG8 (io), 27 PJ6/~{WKP6}/SEG7 (io), 28 PJ5/~{WKP5}/SEG6 (io), 29 PJ4/~{WKP4}/SEG5 (io), 30 PJ3/~{WKP3}/SEG4 (io), 31 PJ2/~{WKP2}/SEG3 (io), 32 PJ1/~{WKP1}/SEG2 (io), 33 PJ0/~{WKP0}/SEG1 (io), 34 P10/TIOCA0 (io), 35 P11/TIOCB0 (io), 36 P12/TIOCC0/TCLKA (io), 37 P13/TIOCD0/TCLKB (io), 38 P14/TIOCA1/~{IRQ0} (io), 39 P15/TIOCB1/TCLKC (io), 40 P16/TIOCA2/~{IRQ1} (io), 41 P17/TIOCB2/TCLKD (io), 43 P97/AN9/DA1 (io), 44 P96/AN8/DA0 (io), 45 P47/AN7 (io), 46 P46/AN6 (io), 47 P45/AN5 (io), 48 P44/AN4 (io), 49 P43/AN3 (io), 50 P42/AN2 (io), 51 P41/AN1 (io), 52 P40/AN0 (io), 53 VREF (in), 55 PH7/TONED/TMCI4 (io), 56 MD1 (in), 57 OSC2 (in), 58 OSC1 (in), 59 ~{RES} (in), 60 NMI (in), 61 ~{STBY} (in), 63 XTAL (in), 65 EXTAL (in), 66 FWE (in), 67 MD2 (in), 68 P77/TXD2 (io), 69 P76/RXD2 (io), 70 P75/TMO3/SCK2 (io), 71 P74/TMO2 (io), 72 P73/TMO1 (io), 73 P72/TMO0 (io), 74 P71/TMRI23/TMCI23 (io), 75 P70/TMRI01/TMCI01 (io), 76 P30/TXD0 (io), 77 P31/RXD0 (io), 78 P32/SCK0/SDA1/~{IRQ4} (io), 79 P33/TXD1/SCL1 (io), 80 P34/RXD1/SDA0 (io), 81 P35/SCK1/SCL0/~{IRQ5} (io), 82 PF3/~{ADTRG}/~{IRQ3} (io), 83 C2, 84 C1, 88 PH3/COM4 (io), 89 PH2/COM3 (io), 90 PH1/COM2 (io), 91 PH0/COM1 (io), 92 PN7/SEG40 (io), 93 PN6/SEG39 (io), 94 PN5/SEG38 (io), 95 PN4/SEG37 (io), 96 PN3/SEG36 (io), 97 PN2/SEG35 (io), 98 PN1/SEG34 (io), 99 PN0/SEG33 (io), 100 PM7/SEG32 (io)
part B pins: 12 CVCC, 14 VSS (power), 42 AVSS (power), 54 AVCC (power), 62 VCC (power), 64 VSS (power), 85 V3 (power), 86 V2 (power), 87 V1 (power)

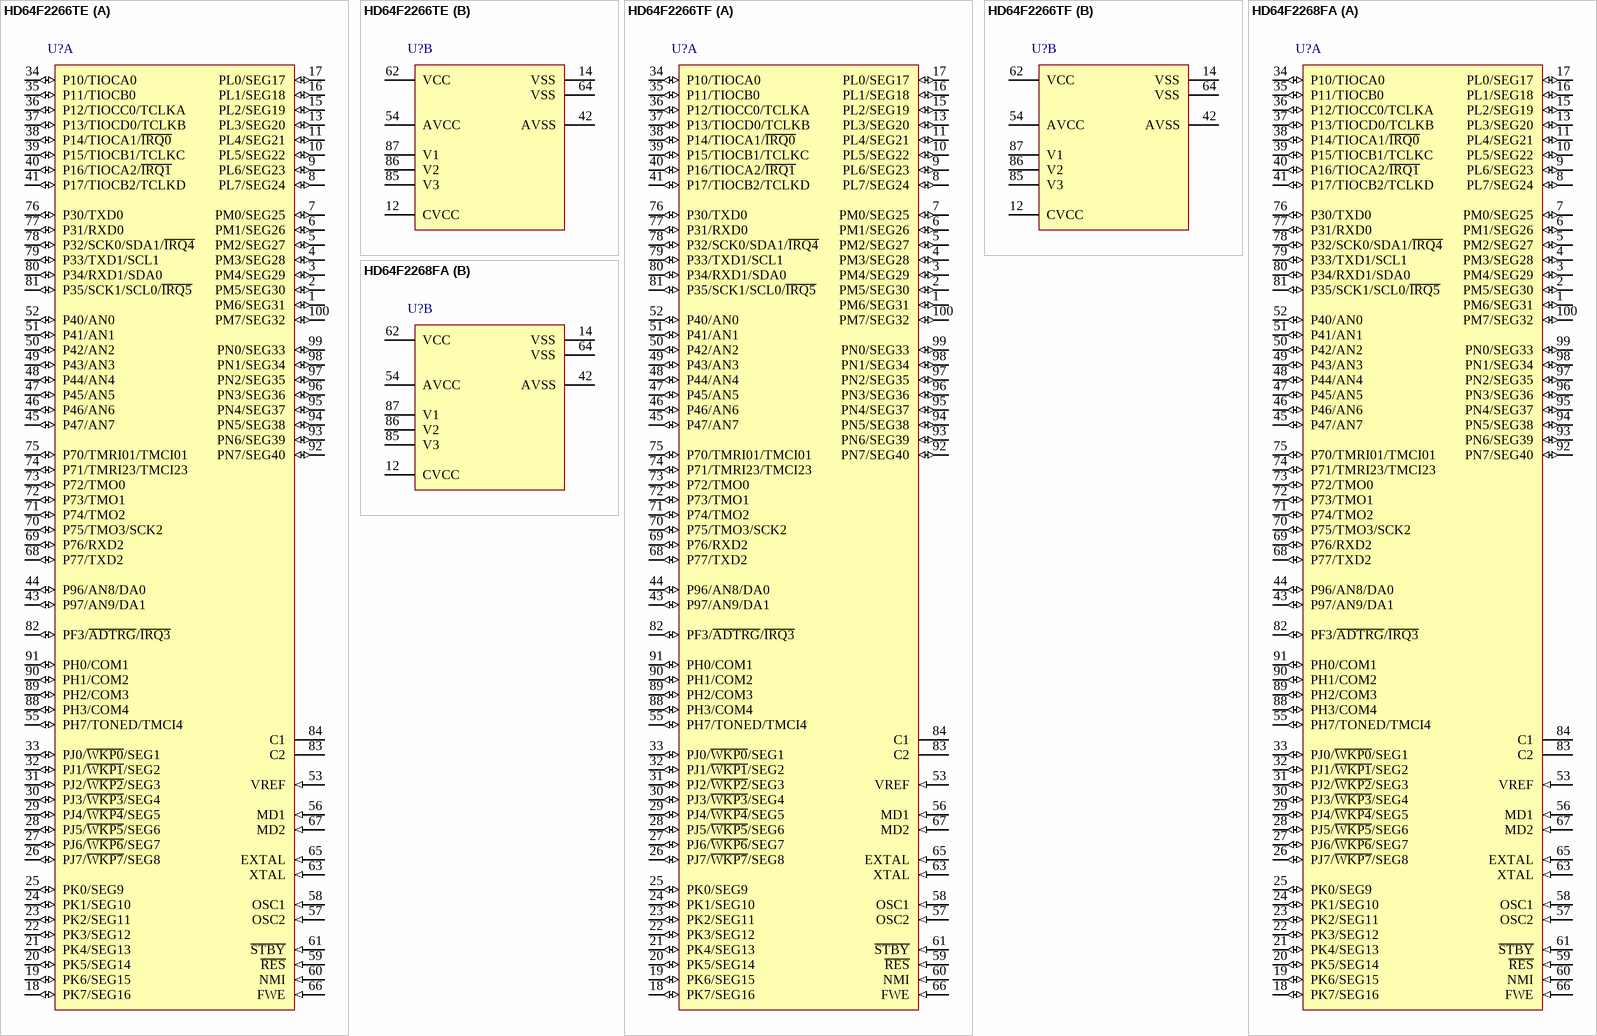
[diagram p42: symbols HD64F2266TE to HD64F2268FA]

## HD64F2266TE
designator U?
Flash memory H8S/2200 Series, 2268 Group MCU, 128K ROM, 8K RAM, TFP-100B Pkg; Published: 28-Aug-2009; DatasheetVersion: Rev.5.00, Sep-2009; PackageVersion: Sep-2005; PackageReference: PTQP0100KA-A; Publisher: Altium Limited; PackageDescription: 100-Pin Plastic Thin Quad Flat Pack, 14 x 14 x 1.0 mm Body, 0.5 mm Pitch; Code_JEITA: P-TQFP100-14x14-0.50; ComponentLink1Description: Manufacturer Link; ComponentLink1URL: http://sg.renesas.com/fmwk.jsp?cnt=h8s_family_landing.jsp&fp=/products/mpumcu/h8s_family/; ComponentLink2Description: Datasheet; ComponentLink2URL: http://documentation.renesas.com/eng/products/mpumcu/rej09b0071_h8s2268.pdf; ComponentLink3Description: Packaging Specification; ComponentLink3URL: http://sg.renesas.com/media/products/common_info/package/pdf/ic/code/ptqp0100ka_a.pdf
footprint PTQP0100KA-A_N (Thin QFP, 100-Leads, Body 14x14mm, Pitch 0.5mm, IPC Medium Density)
footprint PTQP0100KA-A_L (Thin QFP, 100-Leads, Body 14x14mm, Pitch 0.5mm, IPC High Density)
footprint PTQP0100KA-A_M (Thin QFP, 100-Leads, Body 14x14mm, Pitch 0.5mm, IPC Low Density)
part A pins: 1 PM6/SEG31 (io), 2 PM5/SEG30 (io), 3 PM4/SEG29 (io), 4 PM3/SEG28 (io), 5 PM2/SEG27 (io), 6 PM1/SEG26 (io), 7 PM0/SEG25 (io), 8 PL7/SEG24 (io), 9 PL6/SEG23 (io), 10 PL5/SEG22 (io), 11 PL4/SEG21 (io), 13 PL3/SEG20 (io), 15 PL2/SEG19 (io), 16 PL1/SEG18 (io), 17 PL0/SEG17 (io), 18 PK7/SEG16 (io), 19 PK6/SEG15 (io), 20 PK5/SEG14 (io), 21 PK4/SEG13 (io), 22 PK3/SEG12 (io), 23 PK2/SEG11 (io), 24 PK1/SEG10 (io), 25 PK0/SEG9 (io), 26 PJ7/~{WKP7}/SEG8 (io), 27 PJ6/~{WKP6}/SEG7 (io), 28 PJ5/~{WKP5}/SEG6 (io), 29 PJ4/~{WKP4}/SEG5 (io), 30 PJ3/~{WKP3}/SEG4 (io), 31 PJ2/~{WKP2}/SEG3 (io), 32 PJ1/~{WKP1}/SEG2 (io), 33 PJ0/~{WKP0}/SEG1 (io), 34 P10/TIOCA0 (io), 35 P11/TIOCB0 (io), 36 P12/TIOCC0/TCLKA (io), 37 P13/TIOCD0/TCLKB (io), 38 P14/TIOCA1/~{IRQ0} (io), 39 P15/TIOCB1/TCLKC (io), 40 P16/TIOCA2/~{IRQ1} (io), 41 P17/TIOCB2/TCLKD (io), 43 P97/AN9/DA1 (io), 44 P96/AN8/DA0 (io), 45 P47/AN7 (io), 46 P46/AN6 (io), 47 P45/AN5 (io), 48 P44/AN4 (io), 49 P43/AN3 (io), 50 P42/AN2 (io), 51 P41/AN1 (io), 52 P40/AN0 (io), 53 VREF (in), 55 PH7/TONED/TMCI4 (io), 56 MD1 (in), 57 OSC2 (in), 58 OSC1 (in), 59 ~{RES} (in), 60 NMI (in), 61 ~{STBY} (in), 63 XTAL (in), 65 EXTAL (in), 66 FWE (in), 67 MD2 (in), 68 P77/TXD2 (io), 69 P76/RXD2 (io), 70 P75/TMO3/SCK2 (io), 71 P74/TMO2 (io), 72 P73/TMO1 (io), 73 P72/TMO0 (io), 74 P71/TMRI23/TMCI23 (io), 75 P70/TMRI01/TMCI01 (io), 76 P30/TXD0 (io), 77 P31/RXD0 (io), 78 P32/SCK0/SDA1/~{IRQ4} (io), 79 P33/TXD1/SCL1 (io), 80 P34/RXD1/SDA0 (io), 81 P35/SCK1/SCL0/~{IRQ5} (io), 82 PF3/~{ADTRG}/~{IRQ3} (io), 83 C2, 84 C1, 88 PH3/COM4 (io), 89 PH2/COM3 (io), 90 PH1/COM2 (io), 91 PH0/COM1 (io), 92 PN7/SEG40 (io), 93 PN6/SEG39 (io), 94 PN5/SEG38 (io), 95 PN4/SEG37 (io), 96 PN3/SEG36 (io), 97 PN2/SEG35 (io), 98 PN1/SEG34 (io), 99 PN0/SEG33 (io), 100 PM7/SEG32 (io)
part B pins: 12 CVCC, 14 VSS (power), 42 AVSS (power), 54 AVCC (power), 62 VCC (power), 64 VSS (power), 85 V3 (power), 86 V2 (power), 87 V1 (power)

## HD64F2266TF
designator U?
Flash memory H8S/2200 Series, 2268 Group MCU, 128K ROM, 8K RAM, TFP-100G Pkg; Published: 28-Aug-2009; DatasheetVersion: Rev.5.00, Sep-2009; PackageVersion: Sep-2005; PackageReference: PTQP0100LC-A; Publisher: Altium Limited; PackageDescription: 100-Pin Plastic Thin QFP, 12 x 12 x 1.0 mm Body, 0.4 mm Pitch; Code_JEITA: P-TQFP100-12x12-0.40; ComponentLink1Description: Manufacturer Link; ComponentLink1URL: http://sg.renesas.com/fmwk.jsp?cnt=h8s_family_landing.jsp&fp=/products/mpumcu/h8s_family/; ComponentLink2Description: Datasheet; ComponentLink2URL: http://documentation.renesas.com/eng/products/mpumcu/rej09b0071_h8s2268.pdf; ComponentLink3Description: Packaging Specification; ComponentLink3URL: http://sg.renesas.com/media/products/common_info/package/pdf/ic/code/ptqp0100lc_a.pdf
footprint PTQP0100LC-A_N (Thin QFP, 100-Leads, Body 12x12mm, Pitch 0.4mm, IPC Medium Density)
footprint PTQP0100LC-A_L (Thin QFP, 100-Leads, Body 12x12mm, Pitch 0.4mm, IPC High Density)
footprint PTQP0100LC-A_M (Thin QFP, 100-Leads, Body 12x12mm, Pitch 0.4mm, IPC Low Density)
part A pins: 1 PM6/SEG31 (io), 2 PM5/SEG30 (io), 3 PM4/SEG29 (io), 4 PM3/SEG28 (io), 5 PM2/SEG27 (io), 6 PM1/SEG26 (io), 7 PM0/SEG25 (io), 8 PL7/SEG24 (io), 9 PL6/SEG23 (io), 10 PL5/SEG22 (io), 11 PL4/SEG21 (io), 13 PL3/SEG20 (io), 15 PL2/SEG19 (io), 16 PL1/SEG18 (io), 17 PL0/SEG17 (io), 18 PK7/SEG16 (io), 19 PK6/SEG15 (io), 20 PK5/SEG14 (io), 21 PK4/SEG13 (io), 22 PK3/SEG12 (io), 23 PK2/SEG11 (io), 24 PK1/SEG10 (io), 25 PK0/SEG9 (io), 26 PJ7/~{WKP7}/SEG8 (io), 27 PJ6/~{WKP6}/SEG7 (io), 28 PJ5/~{WKP5}/SEG6 (io), 29 PJ4/~{WKP4}/SEG5 (io), 30 PJ3/~{WKP3}/SEG4 (io), 31 PJ2/~{WKP2}/SEG3 (io), 32 PJ1/~{WKP1}/SEG2 (io), 33 PJ0/~{WKP0}/SEG1 (io), 34 P10/TIOCA0 (io), 35 P11/TIOCB0 (io), 36 P12/TIOCC0/TCLKA (io), 37 P13/TIOCD0/TCLKB (io), 38 P14/TIOCA1/~{IRQ0} (io), 39 P15/TIOCB1/TCLKC (io), 40 P16/TIOCA2/~{IRQ1} (io), 41 P17/TIOCB2/TCLKD (io), 43 P97/AN9/DA1 (io), 44 P96/AN8/DA0 (io), 45 P47/AN7 (io), 46 P46/AN6 (io), 47 P45/AN5 (io), 48 P44/AN4 (io), 49 P43/AN3 (io), 50 P42/AN2 (io), 51 P41/AN1 (io), 52 P40/AN0 (io), 53 VREF (in), 55 PH7/TONED/TMCI4 (io), 56 MD1 (in), 57 OSC2 (in), 58 OSC1 (in), 59 ~{RES} (in), 60 NMI (in), 61 ~{STBY} (in), 63 XTAL (in), 65 EXTAL (in), 66 FWE (in), 67 MD2 (in), 68 P77/TXD2 (io), 69 P76/RXD2 (io), 70 P75/TMO3/SCK2 (io), 71 P74/TMO2 (io), 72 P73/TMO1 (io), 73 P72/TMO0 (io), 74 P71/TMRI23/TMCI23 (io), 75 P70/TMRI01/TMCI01 (io), 76 P30/TXD0 (io), 77 P31/RXD0 (io), 78 P32/SCK0/SDA1/~{IRQ4} (io), 79 P33/TXD1/SCL1 (io), 80 P34/RXD1/SDA0 (io), 81 P35/SCK1/SCL0/~{IRQ5} (io), 82 PF3/~{ADTRG}/~{IRQ3} (io), 83 C2, 84 C1, 88 PH3/COM4 (io), 89 PH2/COM3 (io), 90 PH1/COM2 (io), 91 PH0/COM1 (io), 92 PN7/SEG40 (io), 93 PN6/SEG39 (io), 94 PN5/SEG38 (io), 95 PN4/SEG37 (io), 96 PN3/SEG36 (io), 97 PN2/SEG35 (io), 98 PN1/SEG34 (io), 99 PN0/SEG33 (io), 100 PM7/SEG32 (io)
part B pins: 12 CVCC, 14 VSS (power), 42 AVSS (power), 54 AVCC (power), 62 VCC (power), 64 VSS (power), 85 V3 (power), 86 V2 (power), 87 V1 (power)

## HD64F2268FA
designator U?
Flash memory H8S/2200 Series, 2268 Group MCU, 256K ROM, 16K RAM, FP-100B Pkg; Published: 28-Aug-2009; DatasheetVersion: Rev.5.00, Sep-2009; PackageVersion: Sep-2009; PackageReference: PRQP0100KA-A; Publisher: Altium Limited; PackageDescription: 100-Pin Plastic Quad Flat Pack, 14 x 14 x 2.7 mm Body, 0.5 mm Pitch; Code_JEITA: P-QFP100-14x14-0.50; ComponentLink1Description: Manufacturer Link; ComponentLink1URL: http://sg.renesas.com/fmwk.jsp?cnt=h8s_family_landing.jsp&fp=/products/mpumcu/h8s_family/; ComponentLink2Description: Datasheet; ComponentLink2URL: http://documentation.renesas.com/eng/products/mpumcu/rej09b0071_h8s2268.pdf; ComponentLink3Description: Packaging Specification; ComponentLink3URL: http://sg.renesas.com/media/products/common_info/package/pdf/ic/code/prqp0100ka_a.pdf
footprint PRQP0100KA-A_N (Shrink QFP, 100-Leads, Body 14x14mm, Pitch 0.5mm, IPC Medium Density)
footprint PRQP0100KA-A_L (Shrink QFP, 100-Leads, Body 14x14mm, Pitch 0.5mm, IPC High Density)
footprint PRQP0100KA-A_M (Shrink QFP, 100-Leads, Body 14x14mm, Pitch 0.5mm, IPC Low Density)
part A pins: 1 PM6/SEG31 (io), 2 PM5/SEG30 (io), 3 PM4/SEG29 (io), 4 PM3/SEG28 (io), 5 PM2/SEG27 (io), 6 PM1/SEG26 (io), 7 PM0/SEG25 (io), 8 PL7/SEG24 (io), 9 PL6/SEG23 (io), 10 PL5/SEG22 (io), 11 PL4/SEG21 (io), 13 PL3/SEG20 (io), 15 PL2/SEG19 (io), 16 PL1/SEG18 (io), 17 PL0/SEG17 (io), 18 PK7/SEG16 (io), 19 PK6/SEG15 (io), 20 PK5/SEG14 (io), 21 PK4/SEG13 (io), 22 PK3/SEG12 (io), 23 PK2/SEG11 (io), 24 PK1/SEG10 (io), 25 PK0/SEG9 (io), 26 PJ7/~{WKP7}/SEG8 (io), 27 PJ6/~{WKP6}/SEG7 (io), 28 PJ5/~{WKP5}/SEG6 (io), 29 PJ4/~{WKP4}/SEG5 (io), 30 PJ3/~{WKP3}/SEG4 (io), 31 PJ2/~{WKP2}/SEG3 (io), 32 PJ1/~{WKP1}/SEG2 (io), 33 PJ0/~{WKP0}/SEG1 (io), 34 P10/TIOCA0 (io), 35 P11/TIOCB0 (io), 36 P12/TIOCC0/TCLKA (io), 37 P13/TIOCD0/TCLKB (io), 38 P14/TIOCA1/~{IRQ0} (io), 39 P15/TIOCB1/TCLKC (io), 40 P16/TIOCA2/~{IRQ1} (io), 41 P17/TIOCB2/TCLKD (io), 43 P97/AN9/DA1 (io), 44 P96/AN8/DA0 (io), 45 P47/AN7 (io), 46 P46/AN6 (io), 47 P45/AN5 (io), 48 P44/AN4 (io), 49 P43/AN3 (io), 50 P42/AN2 (io), 51 P41/AN1 (io), 52 P40/AN0 (io), 53 VREF (in), 55 PH7/TONED/TMCI4 (io), 56 MD1 (in), 57 OSC2 (in), 58 OSC1 (in), 59 ~{RES} (in), 60 NMI (in), 61 ~{STBY} (in), 63 XTAL (in), 65 EXTAL (in), 66 FWE (in), 67 MD2 (in), 68 P77/TXD2 (io), 69 P76/RXD2 (io), 70 P75/TMO3/SCK2 (io), 71 P74/TMO2 (io), 72 P73/TMO1 (io), 73 P72/TMO0 (io), 74 P71/TMRI23/TMCI23 (io), 75 P70/TMRI01/TMCI01 (io), 76 P30/TXD0 (io), 77 P31/RXD0 (io), 78 P32/SCK0/SDA1/~{IRQ4} (io), 79 P33/TXD1/SCL1 (io), 80 P34/RXD1/SDA0 (io), 81 P35/SCK1/SCL0/~{IRQ5} (io), 82 PF3/~{ADTRG}/~{IRQ3} (io), 83 C2, 84 C1, 88 PH3/COM4 (io), 89 PH2/COM3 (io), 90 PH1/COM2 (io), 91 PH0/COM1 (io), 92 PN7/SEG40 (io), 93 PN6/SEG39 (io), 94 PN5/SEG38 (io), 95 PN4/SEG37 (io), 96 PN3/SEG36 (io), 97 PN2/SEG35 (io), 98 PN1/SEG34 (io), 99 PN0/SEG33 (io), 100 PM7/SEG32 (io)
part B pins: 12 CVCC, 14 VSS (power), 42 AVSS (power), 54 AVCC (power), 62 VCC (power), 64 VSS (power), 85 V3 (power), 86 V2 (power), 87 V1 (power)

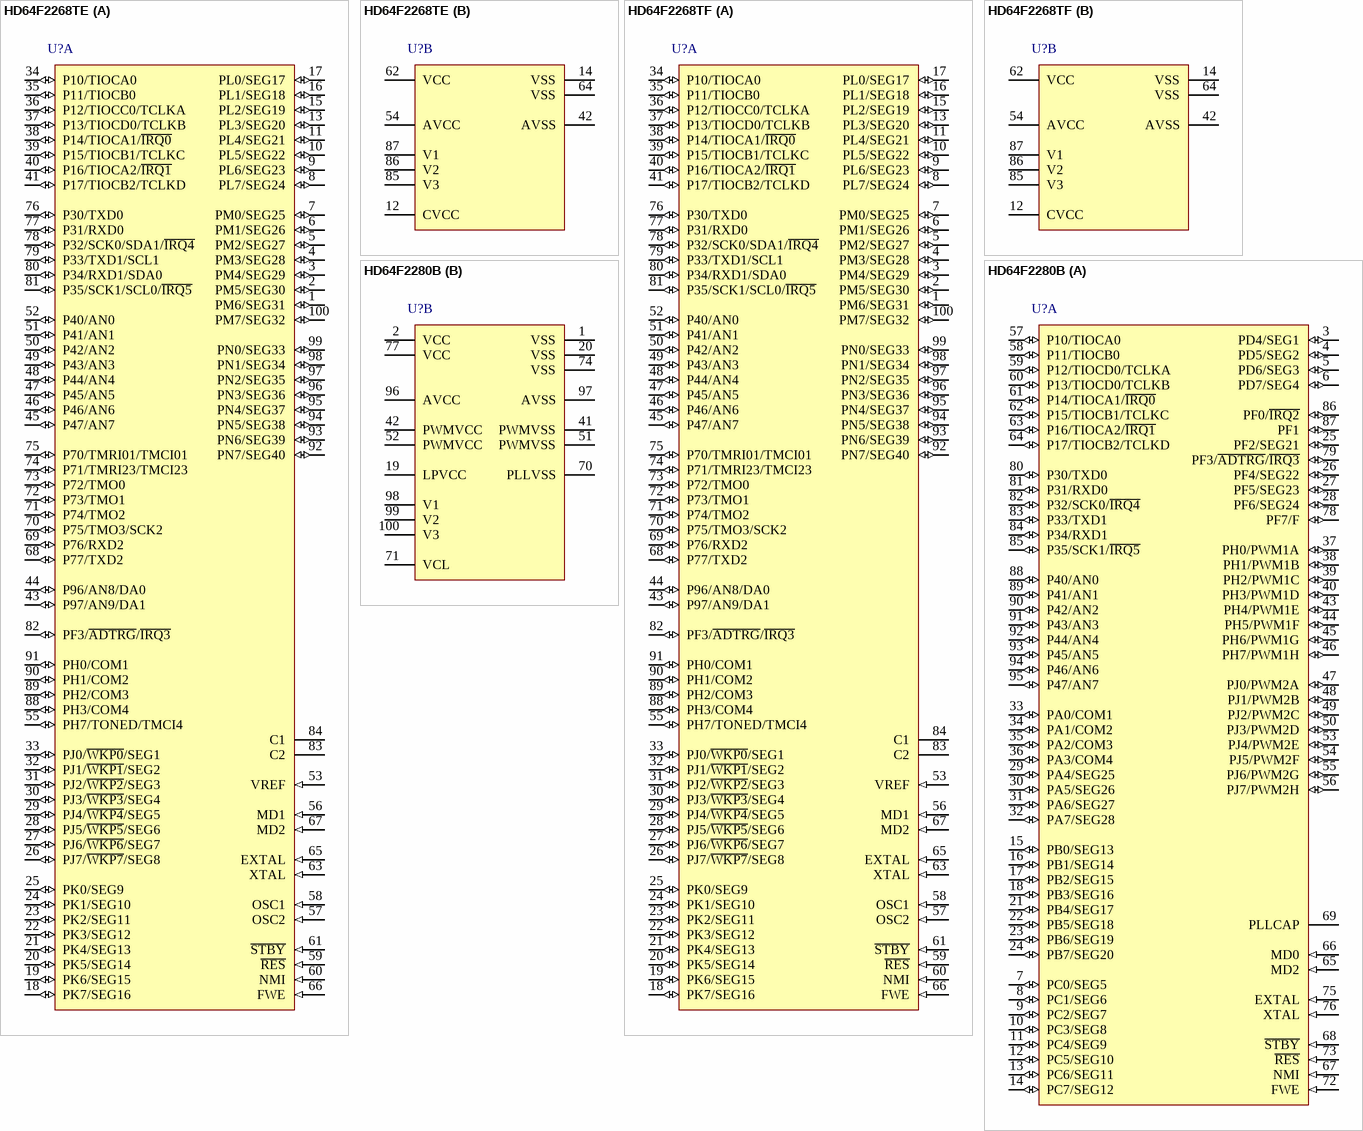
[diagram p43: symbols HD64F2268TE to HD64F2280B]

## HD64F2268TE
designator U?
Flash memory H8S/2200 Series, 2268 Group MCU, 256K ROM, 16K RAM, TFP-100B Pkg; Published: 28-Aug-2009; DatasheetVersion: Rev.5.00, Sep-2009; PackageVersion: Sep-2005; PackageReference: PTQP0100KA-A; Publisher: Altium Limited; PackageDescription: 100-Pin Plastic Thin Quad Flat Pack, 14 x 14 x 1.0 mm Body, 0.5 mm Pitch; Code_JEITA: P-TQFP100-14x14-0.50; ComponentLink1Description: Manufacturer Link; ComponentLink1URL: http://sg.renesas.com/fmwk.jsp?cnt=h8s_family_landing.jsp&fp=/products/mpumcu/h8s_family/; ComponentLink2Description: Datasheet; ComponentLink2URL: http://documentation.renesas.com/eng/products/mpumcu/rej09b0071_h8s2268.pdf; ComponentLink3Description: Packaging Specification; ComponentLink3URL: http://sg.renesas.com/media/products/common_info/package/pdf/ic/code/ptqp0100ka_a.pdf
footprint PTQP0100KA-A_N (Thin QFP, 100-Leads, Body 14x14mm, Pitch 0.5mm, IPC Medium Density)
footprint PTQP0100KA-A_L (Thin QFP, 100-Leads, Body 14x14mm, Pitch 0.5mm, IPC High Density)
footprint PTQP0100KA-A_M (Thin QFP, 100-Leads, Body 14x14mm, Pitch 0.5mm, IPC Low Density)
part A pins: 1 PM6/SEG31 (io), 2 PM5/SEG30 (io), 3 PM4/SEG29 (io), 4 PM3/SEG28 (io), 5 PM2/SEG27 (io), 6 PM1/SEG26 (io), 7 PM0/SEG25 (io), 8 PL7/SEG24 (io), 9 PL6/SEG23 (io), 10 PL5/SEG22 (io), 11 PL4/SEG21 (io), 13 PL3/SEG20 (io), 15 PL2/SEG19 (io), 16 PL1/SEG18 (io), 17 PL0/SEG17 (io), 18 PK7/SEG16 (io), 19 PK6/SEG15 (io), 20 PK5/SEG14 (io), 21 PK4/SEG13 (io), 22 PK3/SEG12 (io), 23 PK2/SEG11 (io), 24 PK1/SEG10 (io), 25 PK0/SEG9 (io), 26 PJ7/~{WKP7}/SEG8 (io), 27 PJ6/~{WKP6}/SEG7 (io), 28 PJ5/~{WKP5}/SEG6 (io), 29 PJ4/~{WKP4}/SEG5 (io), 30 PJ3/~{WKP3}/SEG4 (io), 31 PJ2/~{WKP2}/SEG3 (io), 32 PJ1/~{WKP1}/SEG2 (io), 33 PJ0/~{WKP0}/SEG1 (io), 34 P10/TIOCA0 (io), 35 P11/TIOCB0 (io), 36 P12/TIOCC0/TCLKA (io), 37 P13/TIOCD0/TCLKB (io), 38 P14/TIOCA1/~{IRQ0} (io), 39 P15/TIOCB1/TCLKC (io), 40 P16/TIOCA2/~{IRQ1} (io), 41 P17/TIOCB2/TCLKD (io), 43 P97/AN9/DA1 (io), 44 P96/AN8/DA0 (io), 45 P47/AN7 (io), 46 P46/AN6 (io), 47 P45/AN5 (io), 48 P44/AN4 (io), 49 P43/AN3 (io), 50 P42/AN2 (io), 51 P41/AN1 (io), 52 P40/AN0 (io), 53 VREF (in), 55 PH7/TONED/TMCI4 (io), 56 MD1 (in), 57 OSC2 (in), 58 OSC1 (in), 59 ~{RES} (in), 60 NMI (in), 61 ~{STBY} (in), 63 XTAL (in), 65 EXTAL (in), 66 FWE (in), 67 MD2 (in), 68 P77/TXD2 (io), 69 P76/RXD2 (io), 70 P75/TMO3/SCK2 (io), 71 P74/TMO2 (io), 72 P73/TMO1 (io), 73 P72/TMO0 (io), 74 P71/TMRI23/TMCI23 (io), 75 P70/TMRI01/TMCI01 (io), 76 P30/TXD0 (io), 77 P31/RXD0 (io), 78 P32/SCK0/SDA1/~{IRQ4} (io), 79 P33/TXD1/SCL1 (io), 80 P34/RXD1/SDA0 (io), 81 P35/SCK1/SCL0/~{IRQ5} (io), 82 PF3/~{ADTRG}/~{IRQ3} (io), 83 C2, 84 C1, 88 PH3/COM4 (io), 89 PH2/COM3 (io), 90 PH1/COM2 (io), 91 PH0/COM1 (io), 92 PN7/SEG40 (io), 93 PN6/SEG39 (io), 94 PN5/SEG38 (io), 95 PN4/SEG37 (io), 96 PN3/SEG36 (io), 97 PN2/SEG35 (io), 98 PN1/SEG34 (io), 99 PN0/SEG33 (io), 100 PM7/SEG32 (io)
part B pins: 12 CVCC, 14 VSS (power), 42 AVSS (power), 54 AVCC (power), 62 VCC (power), 64 VSS (power), 85 V3 (power), 86 V2 (power), 87 V1 (power)

## HD64F2268TF
designator U?
Flash memory H8S/2200 Series, 2268 Group MCU, 256K ROM, 16K RAM, TFP-100G Pkg; Published: 28-Aug-2009; DatasheetVersion: Rev.5.00, Sep-2009; PackageVersion: Sep-2005; PackageReference: PTQP0100LC-A; Publisher: Altium Limited; PackageDescription: 100-Pin Plastic Thin QFP, 12 x 12 x 1.0 mm Body, 0.4 mm Pitch; Code_JEITA: P-TQFP100-12x12-0.40; ComponentLink1Description: Manufacturer Link; ComponentLink1URL: http://sg.renesas.com/fmwk.jsp?cnt=h8s_family_landing.jsp&fp=/products/mpumcu/h8s_family/; ComponentLink2Description: Datasheet; ComponentLink2URL: http://documentation.renesas.com/eng/products/mpumcu/rej09b0071_h8s2268.pdf; ComponentLink3Description: Packaging Specification; ComponentLink3URL: http://sg.renesas.com/media/products/common_info/package/pdf/ic/code/ptqp0100lc_a.pdf
footprint PTQP0100LC-A_N (Thin QFP, 100-Leads, Body 12x12mm, Pitch 0.4mm, IPC Medium Density)
footprint PTQP0100LC-A_L (Thin QFP, 100-Leads, Body 12x12mm, Pitch 0.4mm, IPC High Density)
footprint PTQP0100LC-A_M (Thin QFP, 100-Leads, Body 12x12mm, Pitch 0.4mm, IPC Low Density)
part A pins: 1 PM6/SEG31 (io), 2 PM5/SEG30 (io), 3 PM4/SEG29 (io), 4 PM3/SEG28 (io), 5 PM2/SEG27 (io), 6 PM1/SEG26 (io), 7 PM0/SEG25 (io), 8 PL7/SEG24 (io), 9 PL6/SEG23 (io), 10 PL5/SEG22 (io), 11 PL4/SEG21 (io), 13 PL3/SEG20 (io), 15 PL2/SEG19 (io), 16 PL1/SEG18 (io), 17 PL0/SEG17 (io), 18 PK7/SEG16 (io), 19 PK6/SEG15 (io), 20 PK5/SEG14 (io), 21 PK4/SEG13 (io), 22 PK3/SEG12 (io), 23 PK2/SEG11 (io), 24 PK1/SEG10 (io), 25 PK0/SEG9 (io), 26 PJ7/~{WKP7}/SEG8 (io), 27 PJ6/~{WKP6}/SEG7 (io), 28 PJ5/~{WKP5}/SEG6 (io), 29 PJ4/~{WKP4}/SEG5 (io), 30 PJ3/~{WKP3}/SEG4 (io), 31 PJ2/~{WKP2}/SEG3 (io), 32 PJ1/~{WKP1}/SEG2 (io), 33 PJ0/~{WKP0}/SEG1 (io), 34 P10/TIOCA0 (io), 35 P11/TIOCB0 (io), 36 P12/TIOCC0/TCLKA (io), 37 P13/TIOCD0/TCLKB (io), 38 P14/TIOCA1/~{IRQ0} (io), 39 P15/TIOCB1/TCLKC (io), 40 P16/TIOCA2/~{IRQ1} (io), 41 P17/TIOCB2/TCLKD (io), 43 P97/AN9/DA1 (io), 44 P96/AN8/DA0 (io), 45 P47/AN7 (io), 46 P46/AN6 (io), 47 P45/AN5 (io), 48 P44/AN4 (io), 49 P43/AN3 (io), 50 P42/AN2 (io), 51 P41/AN1 (io), 52 P40/AN0 (io), 53 VREF (in), 55 PH7/TONED/TMCI4 (io), 56 MD1 (in), 57 OSC2 (in), 58 OSC1 (in), 59 ~{RES} (in), 60 NMI (in), 61 ~{STBY} (in), 63 XTAL (in), 65 EXTAL (in), 66 FWE (in), 67 MD2 (in), 68 P77/TXD2 (io), 69 P76/RXD2 (io), 70 P75/TMO3/SCK2 (io), 71 P74/TMO2 (io), 72 P73/TMO1 (io), 73 P72/TMO0 (io), 74 P71/TMRI23/TMCI23 (io), 75 P70/TMRI01/TMCI01 (io), 76 P30/TXD0 (io), 77 P31/RXD0 (io), 78 P32/SCK0/SDA1/~{IRQ4} (io), 79 P33/TXD1/SCL1 (io), 80 P34/RXD1/SDA0 (io), 81 P35/SCK1/SCL0/~{IRQ5} (io), 82 PF3/~{ADTRG}/~{IRQ3} (io), 83 C2, 84 C1, 88 PH3/COM4 (io), 89 PH2/COM3 (io), 90 PH1/COM2 (io), 91 PH0/COM1 (io), 92 PN7/SEG40 (io), 93 PN6/SEG39 (io), 94 PN5/SEG38 (io), 95 PN4/SEG37 (io), 96 PN3/SEG36 (io), 97 PN2/SEG35 (io), 98 PN1/SEG34 (io), 99 PN0/SEG33 (io), 100 PM7/SEG32 (io)
part B pins: 12 CVCC, 14 VSS (power), 42 AVSS (power), 54 AVCC (power), 62 VCC (power), 64 VSS (power), 85 V3 (power), 86 V2 (power), 87 V1 (power)